# Altium integrated library Lattice ORCA Series 2.IntLib: 202 symbols (part 9 of 22)
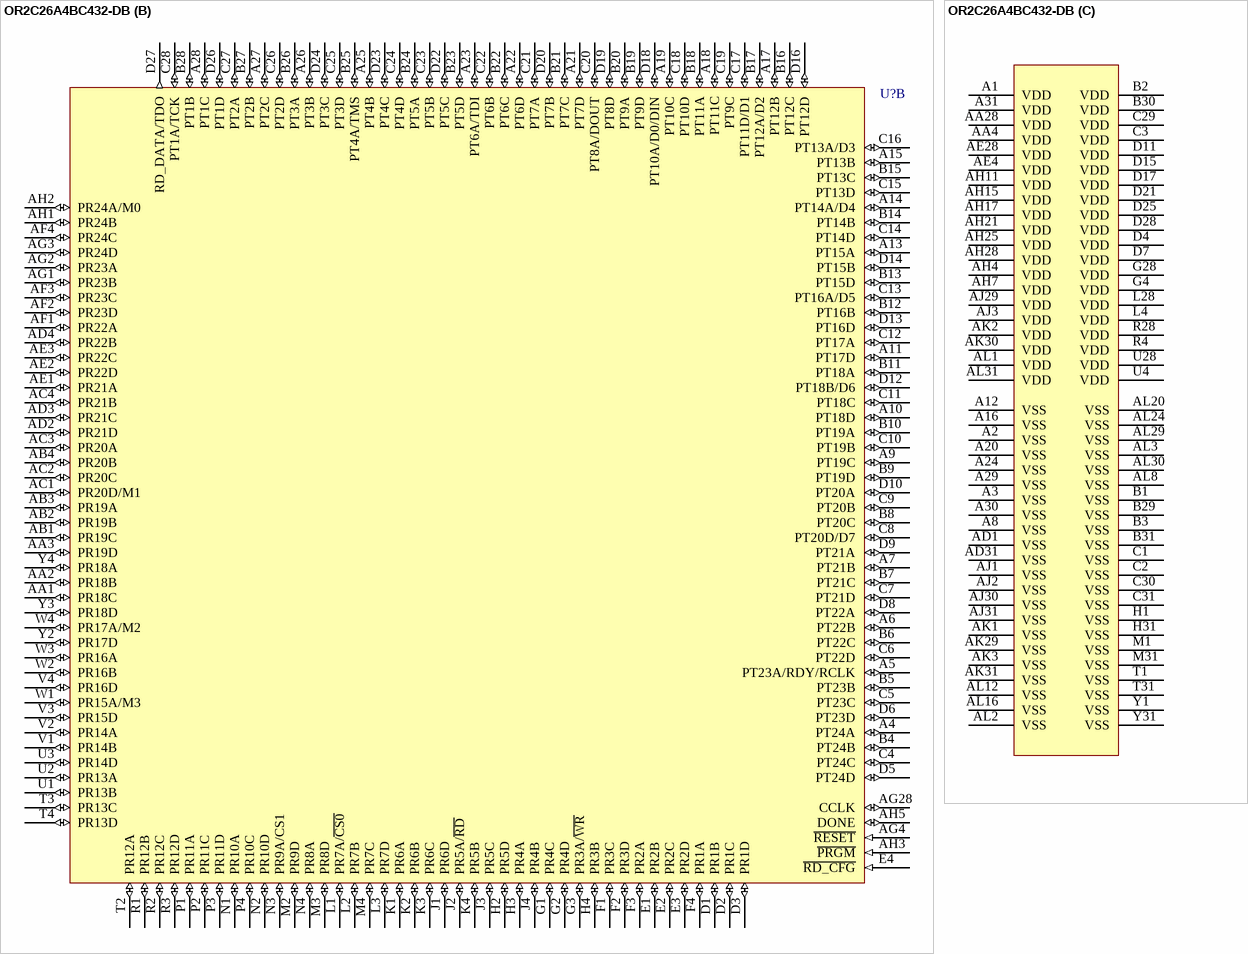
[diagram p200: symbol OR2C26A4BC432-DB]

## OR2C26A4BC432-DB
designator U?
ORCA Series 2C FPGA: 5.0 V, Commercial Grade, 384 User I/Os.; Published: 21-May-2003; LatestRevisionDate: 13-Apr-2006; LatestRevisionNote: IPC-7351 Footprint Added.; DatasheetVersion: Jan-2003; PackageVersion: pkg_32, Aug-2005; PackageReference: SBGA432; Publisher: Altium Limited; PackageDescription: 432-Ball Super Ball Grid Array (SBGA432); ComponentLink1Description: Manufacturer Link; ComponentLink1URL: http://www.latticesemi.com/products/fpga/orca/orca2/index.cfm; ComponentLink2Description: Datasheet; ComponentLink2URL: http://www.latticesemi.com/lit/docs/datasheets/fpga/ds99-094fpga.pdf; ComponentLink3Description: Lattice Login; ComponentLink3URL: http://www.latticesemi.com/account/login.cfm
footprint SBGA432 (BGA, 432-Leads, Body 40x40mm, Pitch 1.27mm)
3D model OR2C26A-SBGA432 (432-Ball Super Ball Grid Array (SBGA432))
part A pins: AA29 PL18A (io), AA30 PL18C (io), AA31 PL18D/A12 (io), AB28 PL20C (io), AB29 PL19B/A13 (io), AB30 PL19C (io), AB31 PL19D (io), AC28 PL21C (io), AC29 PL20B (io), AC30 PL20D (io), AC31 PL19A (io), AD28 PL22C (io), AD29 PL21D/A14 (io), AD30 PL20A (io), AE29 PL22D (io), AE30 PL21A (io), AE31 PL21B (io), AF28 PL24D (io), AF29 PL23D (io), AF30 PL22A (io), AF31 PL22B (io), AG29 PL23A (io), AG30 PL23B (io), AG31 PL23C (io), AH6 PB24A (io), AH8 PB22B (io), AH9 PB21B (io), AH10 PB20B (io), AH12 PB18C (io), AH13 PB17B (io), AH14 PB16A/HDC (io), AH16 PB13A (io), AH18 PB10A (io), AH19 PB8D (io), AH20 PB7C (io), AH22 PB5D (io), AH23 PB4D/A17 (io), AH24 PB3D (io), AH26 PB2A (io), AH27 PB1A/A16 (io), AH29 PL24A/A15 (io), AH30 PL24B (io), AH31 PL24C (io), AJ4 PB24D (io), AJ5 PB23D (io), AJ6 PB23A (io), AJ7 PB22A (io), AJ8 PB21A (io), AJ9 PB20C (io), AJ10 PB19C (io), AJ11 PB18D (io), AJ12 PB17D (io), AJ13 PB16D (io), AJ14 PB15B (io), AJ15 PB14A (io), AJ16 PB12D (io), AJ17 PB12A (io), AJ18 PB11A (io), AJ19 PB9B (io), AJ20 PB8B (io), AJ21 PB7B (io), AJ22 PB6C (io), AJ23 PB5C (io), AJ24 PB5A (io), AJ25 PB4A (io), AJ26 PB3A (io), AJ27 PB2B (io), AJ28 PB1B (io), AK4 PB24C (io), AK5 PB23C (io), AK6 PB22D (io), AK7 PB21D (io), AK8 PB20D (io), AK9 PB20A/~{INIT} (io), AK10 PB19B (io), AK11 PB18B (io), AK12 PB17A (io), AK13 PB16B (io), AK14 PB15A (io), AK15 PB13D (io), AK16 PB13B (io), AK17 PB12B (io), AK18 PB11B (io), AK19 PB9D (io), AK20 PB9A (io), AK21 PB7D (io), AK22 PB6D (io), AK23 PB6A (io), AK24 PB5B (io), AK25 PB4B (io), AK26 PB3B (io), AK27 PB2C (io), AK28 PB1C (io), AL4 PB24B (io), AL5 PB23B (io), AL6 PB22C (io), AL7 PB21C (io), AL9 PB19D (io), AL10 PB19A (io), AL11 PB18A/~{LDC} (io), AL13 PB15D (io), AL14 PB14D (io), AL15 PB13C (io), AL17 PB12C (io), AL18 PB11D (io), AL19 PB10D (io), AL21 PB8A (io), AL22 PB7A (io), AL23 PB6B (io), AL25 PB4C (io), AL26 PB3C (io), AL27 PB2D (io), AL28 PB1D (io), D29 PL1C (io), D30 PL1B (io), D31 PL1A (io), E28 PL1D (io), E29 PL2C (io), E30 PL2B (io), E31 PL2A (io), F28 PL2D/A0 (io), F29 PL3D (io), F30 PL3C (io), F31 PL3B (io), G29 PL4D (io), G30 PL4C (io), G31 PL4B (io), H28 PL3A (io), H29 PL5D (io), H30 PL5C (io), J28 PL4A (io), J29 PL5B (io), J30 PL6D (io), J31 PL6C (io), K28 PL5A/A1 (io), K29 PL6B (io), K30 PL6A/A2 (io), K31 PL7D (io), L29 PL7C (io), L30 PL7A/A3 (io), L31 PL8D (io), M28 PL7B (io), M29 PL8C (io), M30 PL9D (io), N28 PL8A (io), N29 PL9C (io), N30 PL9A/A4 (io), N31 PL10C (io), P28 PL10D/A5 (io), P29 PL10A (io), P30 PL11D (io), P31 PL11A/A6 (io), R29 PL12D (io), R30 PL12C (io), R31 PL12B (io), T28 PL13D (io), T29 PL12A/A7 (io), T30 PL13C (io), U29 PL14D/A9 (io), U30 PL13A/A8 (io), U31 PL13B (io), V28 PL15A/A10 (io), V29 PL15D (io), V30 PL14A (io), V31 PL14C (io), W28 PL17D (io), W29 PL16C (io), W30 PL16D (io), W31 PL15C (io), Y28 PL18B (io), Y29 PL17A/A11 (io), Y30 PL16A (io)
part B pins: A4 PT24A (io), A5 PT23A/RDY/RCLK (io), A6 PT22B (io), A7 PT21B (io), A9 PT19C (io), A10 PT18D (io), A11 PT17D (io), A13 PT15A (io), A14 PT14A/D4 (io), A15 PT13B (io), A17 PT12B (io), A18 PT11C (io), A19 PT10C (io), A21 PT7D (io), A22 PT6D (io), A23 PT6A/TDI (io), A25 PT4B (io), A26 PT3B (io), A27 PT2C (io), A28 PT1C (io), AA1 PR18C (io), AA2 PR18B (io), AA3 PR19D (io), AB1 PR19C (io), AB2 PR19B (io), AB3 PR19A (io), AB4 PR20B (io), AC1 PR20D/M1 (io), AC2 PR20C (io), AC3 PR20A (io), AC4 PR21B (io), AD2 PR21D (io), AD3 PR21C (io), AD4 PR22B (io), AE1 PR21A (io), AE2 PR22D (io), AE3 PR22C (io), AF1 PR22A (io), AF2 PR23D (io), AF3 PR23C (io), AF4 PR24C (io), AG1 PR23B (io), AG2 PR23A (io), AG3 PR24D (io), AG4 ~{RESET} (in), AG28 CCLK (io), AH1 PR24B (io), AH2 PR24A/M0 (io), AH3 ~{PRGM} (in), AH5 DONE (io), B4 PT24B (io), B5 PT23B (io), B6 PT22C (io), B7 PT21C (io), B8 PT20C (io), B9 PT19D (io), B10 PT19A (io), B11 PT18A (io), B12 PT16B (io), B13 PT15D (io), B14 PT14B (io), B15 PT13C (io), B16 PT12C (io), B17 PT12A/D2 (io), B18 PT11A (io), B19 PT9D (io), B20 PT9A (io), B21 PT7C (io), B22 PT6C (io), B23 PT5D (io), B24 PT5A (io), B25 PT4A/TMS (io), B26 PT3A (io), B27 PT2B (io), B28 PT1B (io), C4 PT24C (io), C5 PT23C (io), C6 PT22D (io), C7 PT21D (io), C8 PT20D/D7 (io), C9 PT20B (io), C10 PT19B (io), C11 PT18C (io), C12 PT17A (io), C13 PT16A/D5 (io), C14 PT14D (io), C15 PT13D (io), C16 PT13A/D3 (io), C17 PT11D/D1 (io), C18 PT10D (io), C19 PT9C (io), C20 PT8A/DOUT (io), C21 PT7A (io), C22 PT6B (io), C23 PT5B (io), C24 PT4D (io), C25 PT3D (io), C26 PT2D (io), C27 PT2A (io), C28 PT1A/TCK (io), D1 PR1B (io), D2 PR1C (io), D3 PR1D (io), D5 PT24D (io), D6 PT23D (io), D8 PT22A (io), D9 PT21A (io), D10 PT20A (io), D12 PT18B/D6 (io), D13 PT16D (io), D14 PT15B (io), D16 PT12D (io), D18 PT10A/D0/DIN (io), D19 PT8D (io), D20 PT7B (io), D22 PT5C (io), D23 PT4C (io), D24 PT3C (io), D26 PT1D (io), D27 RD_DATA/TDO (out), E1 PR2B (io), E2 PR2C (io), E3 PR2D (io), E4 ~{RD_CFG} (in), F1 PR3C (io), F2 PR3D (io), F3 PR2A (io), F4 PR1A (io), G1 PR4C (io), G2 PR4D (io), G3 PR3A/~{WR} (io), H2 PR5D (io), H3 PR4A (io), H4 PR3B (io), J1 PR6D (io), J2 PR5A/~{RD} (io), J3 PR5C (io), J4 PR4B (io), K1 PR6A (io), K2 PR6B (io), K3 PR6C (io), K4 PR5B (io), L1 PR7A/~{CS0} (io), L2 PR7B (io), L3 PR7D (io), M2 PR9D (io), M3 PR8D (io), M4 PR7C (io), N1 PR10A (io), N2 PR10D (io), N3 PR9A/CS1 (io), N4 PR8A (io), P1 PR11A (io), P2 PR11C (io), P3 PR11D (io), P4 PR10C (io), R1 PR12B (io), R2 PR12C (io), R3 PR12D (io), T2 PR12A (io), T3 PR13C (io), T4 PR13D (io), U1 PR13B (io), U2 PR13A (io), U3 PR14D (io), V1 PR14B (io), V2 PR14A (io), V3 PR15D (io), V4 PR16D (io), W1 PR15A/M3 (io), W2 PR16B (io), W3 PR16A (io), W4 PR17A/M2 (io), Y2 PR17D (io), Y3 PR18D (io), Y4 PR18A (io)
part C pins: A1 VDD (power), A2 VSS (power), A3 VSS (power), A8 VSS (power), A12 VSS (power), A16 VSS (power), A20 VSS (power), A24 VSS (power), A29 VSS (power), A30 VSS (power), A31 VDD (power), AA4 VDD (power), AA28 VDD (power), AD1 VSS (power), AD31 VSS (power), AE4 VDD (power), AE28 VDD (power), AH4 VDD (power), AH7 VDD (power), AH11 VDD (power), AH15 VDD (power), AH17 VDD (power), AH21 VDD (power), AH25 VDD (power), AH28 VDD (power), AJ1 VSS (power), AJ2 VSS (power), AJ3 VDD (power), AJ29 VDD (power), AJ30 VSS (power), AJ31 VSS (power), AK1 VSS (power), AK2 VDD (power), AK3 VSS (power), AK29 VSS (power), AK30 VDD (power), AK31 VSS (power), AL1 VDD (power), AL2 VSS (power), AL3 VSS (power), AL8 VSS (power), AL12 VSS (power), AL16 VSS (power), AL20 VSS (power), AL24 VSS (power), AL29 VSS (power), AL30 VSS (power), AL31 VDD (power), B1 VSS (power), B2 VDD (power), B3 VSS (power), B29 VSS (power), B30 VDD (power), B31 VSS (power), C1 VSS (power), C2 VSS (power), C3 VDD (power), C29 VDD (power), C30 VSS (power), C31 VSS (power), D4 VDD (power), D7 VDD (power), D11 VDD (power), D15 VDD (power), D17 VDD (power), D21 VDD (power), D25 VDD (power), D28 VDD (power), G4 VDD (power), G28 VDD (power), H1 VSS (power), H31 VSS (power), L4 VDD (power), L28 VDD (power), M1 VSS (power), M31 VSS (power), R4 VDD (power), R28 VDD (power), T1 VSS (power), T31 VSS (power), U4 VDD (power), U28 VDD (power), Y1 VSS (power), Y31 VSS (power)

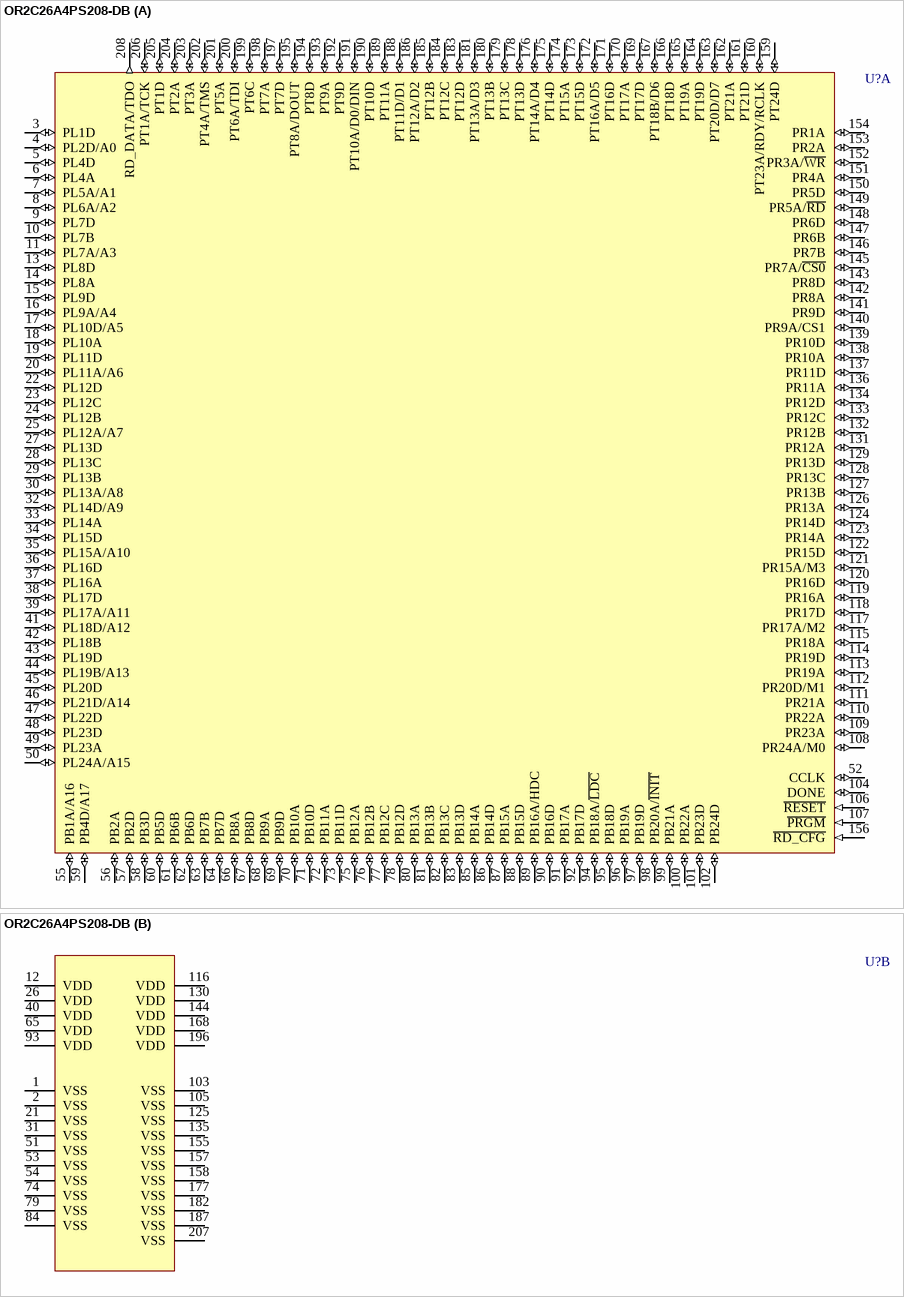
[diagram p65: symbol OR2C26A4PS208-DB]

## OR2C26A4PS208-DB
designator U?
ORCA Series 2C FPGA: 5.0 V, Commercial Grade, 384 User I/Os.; Published: 21-May-2003; LatestRevisionDate: 13-Apr-2006; LatestRevisionNote: IPC-7351 Footprint Added.; DatasheetVersion: Jan-2003; PackageVersion: pkg_32, Aug-2005; PackageReference: PQFP208; Publisher: Altium Limited; PackageDescription: 208-Pin Plastic Quad Flat Pack (PQFP208); Code_JEDEC: MO-143-FAI; ComponentLink1Description: Manufacturer Link; ComponentLink1URL: http://www.latticesemi.com/products/fpga/orca/orca2/index.cfm; ComponentLink2Description: Datasheet; ComponentLink2URL: http://www.latticesemi.com/lit/docs/datasheets/fpga/ds99-094fpga.pdf; ComponentLink3Description: Lattice Login; ComponentLink3URL: http://www.latticesemi.com/account/login.cfm
footprint PQFP208_N (Shrink QFP, 208-Leads, Body 28x28mm, Pitch 0.5mm, IPC Medium Density)
footprint PQFP208_L (Shrink QFP, 208-Leads, Body 28x28mm, Pitch 0.5mm, IPC High Density)
footprint PQFP208_M (Shrink QFP, 208-Leads, Body 28x28mm, Pitch 0.5mm, IPC Low Density)
3D model OR2C26A-PQFP208 (208-Pin Plastic Quad Flat Pack (PQFP208))
part A pins: 3 PL1D (io), 4 PL2D/A0 (io), 5 PL4D (io), 6 PL4A (io), 7 PL5A/A1 (io), 8 PL6A/A2 (io), 9 PL7D (io), 10 PL7B (io), 11 PL7A/A3 (io), 13 PL8D (io), 14 PL8A (io), 15 PL9D (io), 16 PL9A/A4 (io), 17 PL10D/A5 (io), 18 PL10A (io), 19 PL11D (io), 20 PL11A/A6 (io), 22 PL12D (io), 23 PL12C (io), 24 PL12B (io), 25 PL12A/A7 (io), 27 PL13D (io), 28 PL13C (io), 29 PL13B (io), 30 PL13A/A8 (io), 32 PL14D/A9 (io), 33 PL14A (io), 34 PL15D (io), 35 PL15A/A10 (io), 36 PL16D (io), 37 PL16A (io), 38 PL17D (io), 39 PL17A/A11 (io), 41 PL18D/A12 (io), 42 PL18B (io), 43 PL19D (io), 44 PL19B/A13 (io), 45 PL20D (io), 46 PL21D/A14 (io), 47 PL22D (io), 48 PL23D (io), 49 PL23A (io), 50 PL24A/A15 (io), 52 CCLK (io), 55 PB1A/A16 (io), 56 PB2A (io), 57 PB2D (io), 58 PB3D (io), 59 PB4D/A17 (io), 60 PB5D (io), 61 PB6B (io), 62 PB6D (io), 63 PB7B (io), 64 PB7D (io), 66 PB8A (io), 67 PB8D (io), 68 PB9A (io), 69 PB9D (io), 70 PB10A (io), 71 PB10D (io), 72 PB11A (io), 73 PB11D (io), 75 PB12A (io), 76 PB12B (io), 77 PB12C (io), 78 PB12D (io), 80 PB13A (io), 81 PB13B (io), 82 PB13C (io), 83 PB13D (io), 85 PB14A (io), 86 PB14D (io), 87 PB15A (io), 88 PB15D (io), 89 PB16A/HDC (io), 90 PB16D (io), 91 PB17A (io), 92 PB17D (io), 94 PB18A/~{LDC} (io), 95 PB18D (io), 96 PB19A (io), 97 PB19D (io), 98 PB20A/~{INIT} (io), 99 PB21A (io), 100 PB22A (io), 101 PB23D (io), 102 PB24D (io), 104 DONE (io), 106 ~{RESET} (in), 107 ~{PRGM} (in), 108 PR24A/M0 (io), 109 PR23A (io), 110 PR22A (io), 111 PR21A (io), 112 PR20D/M1 (io), 113 PR19A (io), 114 PR19D (io), 115 PR18A (io), 117 PR17A/M2 (io), 118 PR17D (io), 119 PR16A (io), 120 PR16D (io), 121 PR15A/M3 (io), 122 PR15D (io), 123 PR14A (io), 124 PR14D (io), 126 PR13A (io), 127 PR13B (io), 128 PR13C (io), 129 PR13D (io), 131 PR12A (io), 132 PR12B (io), 133 PR12C (io), 134 PR12D (io), 136 PR11A (io), 137 PR11D (io), 138 PR10A (io), 139 PR10D (io), 140 PR9A/CS1 (io), 141 PR9D (io), 142 PR8A (io), 143 PR8D (io), 145 PR7A/~{CS0} (io), 146 PR7B (io), 147 PR6B (io), 148 PR6D (io), 149 PR5A/~{RD} (io), 150 PR5D (io), 151 PR4A (io), 152 PR3A/~{WR} (io), 153 PR2A (io), 154 PR1A (io), 156 ~{RD_CFG} (in), 159 PT24D (io), 160 PT23A/RDY/RCLK (io), 161 PT21D (io), 162 PT21A (io), 163 PT20D/D7 (io), 164 PT19D (io), 165 PT19A (io), 166 PT18D (io), 167 PT18B/D6 (io), 169 PT17D (io), 170 PT17A (io), 171 PT16D (io), 172 PT16A/D5 (io), 173 PT15D (io), 174 PT15A (io), 175 PT14D (io), 176 PT14A/D4 (io), 178 PT13D (io), 179 PT13C (io), 180 PT13B (io), 181 PT13A/D3 (io), 183 PT12D (io), 184 PT12C (io), 185 PT12B (io), 186 PT12A/D2 (io), 188 PT11D/D1 (io), 189 PT11A (io), 190 PT10D (io), 191 PT10A/D0/DIN (io), 192 PT9D (io), 193 PT9A (io), 194 PT8D (io), 195 PT8A/DOUT (io), 197 PT7D (io), 198 PT7A (io), 199 PT6C (io), 200 PT6A/TDI (io), 201 PT5A (io), 202 PT4A/TMS (io), 203 PT3A (io), 204 PT2A (io), 205 PT1D (io), 206 PT1A/TCK (io), 208 RD_DATA/TDO (out)
part B pins: 1 VSS (power), 2 VSS (power), 12 VDD (power), 21 VSS (power), 26 VDD (power), 31 VSS (power), 40 VDD (power), 51 VSS (power), 53 VSS (power), 54 VSS (power), 65 VDD (power), 74 VSS (power), 79 VSS (power), 84 VSS (power), 93 VDD (power), 103 VSS (power), 105 VSS (power), 116 VDD (power), 125 VSS (power), 130 VDD (power), 135 VSS (power), 144 VDD (power), 155 VSS (power), 157 VSS (power), 158 VSS (power), 168 VDD (power), 177 VSS (power), 182 VSS (power), 187 VSS (power), 196 VDD (power), 207 VSS (power)

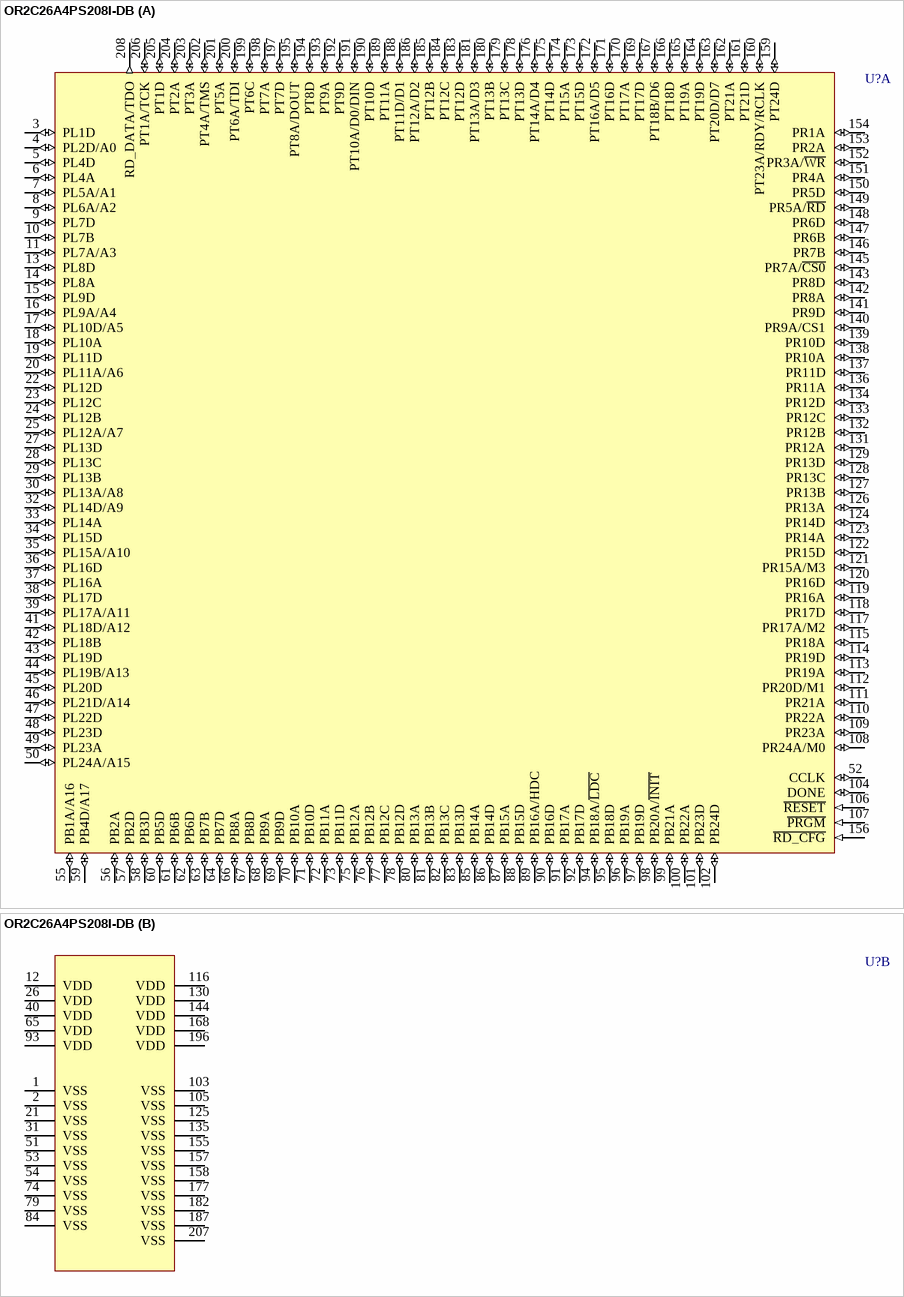
[diagram p66: symbol OR2C26A4PS208I-DB]

## OR2C26A4PS208I-DB
designator U?
ORCA Series 2C FPGA: 5.0 V, Industrial Grade, 384 User I/Os.; Published: 21-May-2003; LatestRevisionDate: 13-Apr-2006; LatestRevisionNote: IPC-7351 Footprint Added.; DatasheetVersion: Jan-2003; PackageVersion: pkg_32, Aug-2005; PackageReference: PQFP208; Publisher: Altium Limited; PackageDescription: 208-Pin Plastic Quad Flat Pack (PQFP208); Code_JEDEC: MO-143-FAI; ComponentLink1Description: Manufacturer Link; ComponentLink1URL: http://www.latticesemi.com/products/fpga/orca/orca2/index.cfm; ComponentLink2Description: Datasheet; ComponentLink2URL: http://www.latticesemi.com/lit/docs/datasheets/fpga/ds99-094fpga.pdf; ComponentLink3Description: Lattice Login; ComponentLink3URL: http://www.latticesemi.com/account/login.cfm
footprint PQFP208_N (Shrink QFP, 208-Leads, Body 28x28mm, Pitch 0.5mm, IPC Medium Density)
footprint PQFP208_L (Shrink QFP, 208-Leads, Body 28x28mm, Pitch 0.5mm, IPC High Density)
footprint PQFP208_M (Shrink QFP, 208-Leads, Body 28x28mm, Pitch 0.5mm, IPC Low Density)
3D model OR2C26A-PQFP208 (208-Pin Plastic Quad Flat Pack (PQFP208))
part A pins: 3 PL1D (io), 4 PL2D/A0 (io), 5 PL4D (io), 6 PL4A (io), 7 PL5A/A1 (io), 8 PL6A/A2 (io), 9 PL7D (io), 10 PL7B (io), 11 PL7A/A3 (io), 13 PL8D (io), 14 PL8A (io), 15 PL9D (io), 16 PL9A/A4 (io), 17 PL10D/A5 (io), 18 PL10A (io), 19 PL11D (io), 20 PL11A/A6 (io), 22 PL12D (io), 23 PL12C (io), 24 PL12B (io), 25 PL12A/A7 (io), 27 PL13D (io), 28 PL13C (io), 29 PL13B (io), 30 PL13A/A8 (io), 32 PL14D/A9 (io), 33 PL14A (io), 34 PL15D (io), 35 PL15A/A10 (io), 36 PL16D (io), 37 PL16A (io), 38 PL17D (io), 39 PL17A/A11 (io), 41 PL18D/A12 (io), 42 PL18B (io), 43 PL19D (io), 44 PL19B/A13 (io), 45 PL20D (io), 46 PL21D/A14 (io), 47 PL22D (io), 48 PL23D (io), 49 PL23A (io), 50 PL24A/A15 (io), 52 CCLK (io), 55 PB1A/A16 (io), 56 PB2A (io), 57 PB2D (io), 58 PB3D (io), 59 PB4D/A17 (io), 60 PB5D (io), 61 PB6B (io), 62 PB6D (io), 63 PB7B (io), 64 PB7D (io), 66 PB8A (io), 67 PB8D (io), 68 PB9A (io), 69 PB9D (io), 70 PB10A (io), 71 PB10D (io), 72 PB11A (io), 73 PB11D (io), 75 PB12A (io), 76 PB12B (io), 77 PB12C (io), 78 PB12D (io), 80 PB13A (io), 81 PB13B (io), 82 PB13C (io), 83 PB13D (io), 85 PB14A (io), 86 PB14D (io), 87 PB15A (io), 88 PB15D (io), 89 PB16A/HDC (io), 90 PB16D (io), 91 PB17A (io), 92 PB17D (io), 94 PB18A/~{LDC} (io), 95 PB18D (io), 96 PB19A (io), 97 PB19D (io), 98 PB20A/~{INIT} (io), 99 PB21A (io), 100 PB22A (io), 101 PB23D (io), 102 PB24D (io), 104 DONE (io), 106 ~{RESET} (in), 107 ~{PRGM} (in), 108 PR24A/M0 (io), 109 PR23A (io), 110 PR22A (io), 111 PR21A (io), 112 PR20D/M1 (io), 113 PR19A (io), 114 PR19D (io), 115 PR18A (io), 117 PR17A/M2 (io), 118 PR17D (io), 119 PR16A (io), 120 PR16D (io), 121 PR15A/M3 (io), 122 PR15D (io), 123 PR14A (io), 124 PR14D (io), 126 PR13A (io), 127 PR13B (io), 128 PR13C (io), 129 PR13D (io), 131 PR12A (io), 132 PR12B (io), 133 PR12C (io), 134 PR12D (io), 136 PR11A (io), 137 PR11D (io), 138 PR10A (io), 139 PR10D (io), 140 PR9A/CS1 (io), 141 PR9D (io), 142 PR8A (io), 143 PR8D (io), 145 PR7A/~{CS0} (io), 146 PR7B (io), 147 PR6B (io), 148 PR6D (io), 149 PR5A/~{RD} (io), 150 PR5D (io), 151 PR4A (io), 152 PR3A/~{WR} (io), 153 PR2A (io), 154 PR1A (io), 156 ~{RD_CFG} (in), 159 PT24D (io), 160 PT23A/RDY/RCLK (io), 161 PT21D (io), 162 PT21A (io), 163 PT20D/D7 (io), 164 PT19D (io), 165 PT19A (io), 166 PT18D (io), 167 PT18B/D6 (io), 169 PT17D (io), 170 PT17A (io), 171 PT16D (io), 172 PT16A/D5 (io), 173 PT15D (io), 174 PT15A (io), 175 PT14D (io), 176 PT14A/D4 (io), 178 PT13D (io), 179 PT13C (io), 180 PT13B (io), 181 PT13A/D3 (io), 183 PT12D (io), 184 PT12C (io), 185 PT12B (io), 186 PT12A/D2 (io), 188 PT11D/D1 (io), 189 PT11A (io), 190 PT10D (io), 191 PT10A/D0/DIN (io), 192 PT9D (io), 193 PT9A (io), 194 PT8D (io), 195 PT8A/DOUT (io), 197 PT7D (io), 198 PT7A (io), 199 PT6C (io), 200 PT6A/TDI (io), 201 PT5A (io), 202 PT4A/TMS (io), 203 PT3A (io), 204 PT2A (io), 205 PT1D (io), 206 PT1A/TCK (io), 208 RD_DATA/TDO (out)
part B pins: 1 VSS (power), 2 VSS (power), 12 VDD (power), 21 VSS (power), 26 VDD (power), 31 VSS (power), 40 VDD (power), 51 VSS (power), 53 VSS (power), 54 VSS (power), 65 VDD (power), 74 VSS (power), 79 VSS (power), 84 VSS (power), 93 VDD (power), 103 VSS (power), 105 VSS (power), 116 VDD (power), 125 VSS (power), 130 VDD (power), 135 VSS (power), 144 VDD (power), 155 VSS (power), 157 VSS (power), 158 VSS (power), 168 VDD (power), 177 VSS (power), 182 VSS (power), 187 VSS (power), 196 VDD (power), 207 VSS (power)

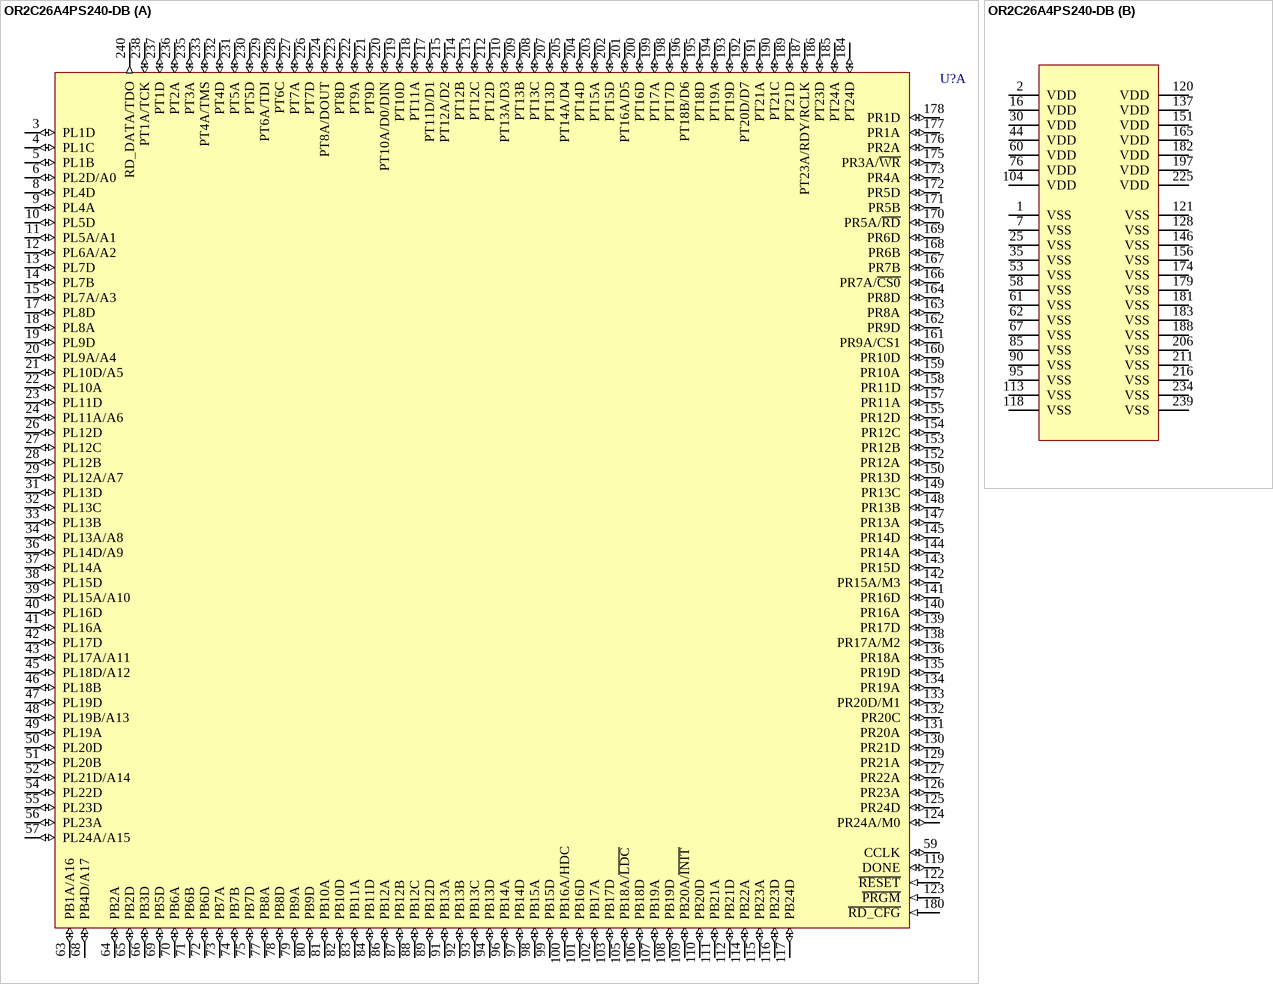
[diagram p67: symbol OR2C26A4PS240-DB]

## OR2C26A4PS240-DB
designator U?
ORCA Series 2C FPGA: 5.0 V, Commercial Grade, 384 User I/Os.; Published: 21-May-2003; LatestRevisionDate: 13-Apr-2006; LatestRevisionNote: IPC-7351 Footprint Added.; DatasheetVersion: Jan-2003; PackageVersion: pkg_32, Aug-2005; PackageReference: PQFP240; Publisher: Altium Limited; PackageDescription: 240-Pin Shrink Quad Flat Pack 0.5 mm Pitch; ComponentLink1Description: Manufacturer Link; ComponentLink1URL: http://www.latticesemi.com/products/fpga/orca/orca2/index.cfm; ComponentLink2Description: Datasheet; ComponentLink2URL: http://www.latticesemi.com/lit/docs/datasheets/fpga/ds99-094fpga.pdf; ComponentLink3Description: Lattice Login; ComponentLink3URL: http://www.latticesemi.com/account/login.cfm
footprint PQFP240_N (Shrink QFP, 240-Leads, Body 32x32mm, Pitch 0.5mm, IPC Medium Density)
footprint PQFP240_L (Shrink QFP, 240-Leads, Body 32x32mm, Pitch 0.5mm, IPC High Density)
footprint PQFP240_M (Shrink QFP, 240-Leads, Body 32x32mm, Pitch 0.5mm, IPC Low Density)
3D model OR2C26A-PQFP240 (240-Pin Shrink Quad Flat Pack 0.5 mm Pitch)
part A pins: 3 PL1D (io), 4 PL1C (io), 5 PL1B (io), 6 PL2D/A0 (io), 8 PL4D (io), 9 PL4A (io), 10 PL5D (io), 11 PL5A/A1 (io), 12 PL6A/A2 (io), 13 PL7D (io), 14 PL7B (io), 15 PL7A/A3 (io), 17 PL8D (io), 18 PL8A (io), 19 PL9D (io), 20 PL9A/A4 (io), 21 PL10D/A5 (io), 22 PL10A (io), 23 PL11D (io), 24 PL11A/A6 (io), 26 PL12D (io), 27 PL12C (io), 28 PL12B (io), 29 PL12A/A7 (io), 31 PL13D (io), 32 PL13C (io), 33 PL13B (io), 34 PL13A/A8 (io), 36 PL14D/A9 (io), 37 PL14A (io), 38 PL15D (io), 39 PL15A/A10 (io), 40 PL16D (io), 41 PL16A (io), 42 PL17D (io), 43 PL17A/A11 (io), 45 PL18D/A12 (io), 46 PL18B (io), 47 PL19D (io), 48 PL19B/A13 (io), 49 PL19A (io), 50 PL20D (io), 51 PL20B (io), 52 PL21D/A14 (io), 54 PL22D (io), 55 PL23D (io), 56 PL23A (io), 57 PL24A/A15 (io), 59 CCLK (io), 63 PB1A/A16 (io), 64 PB2A (io), 65 PB2D (io), 66 PB3D (io), 68 PB4D/A17 (io), 69 PB5D (io), 70 PB6A (io), 71 PB6B (io), 72 PB6D (io), 73 PB7A (io), 74 PB7B (io), 75 PB7D (io), 77 PB8A (io), 78 PB8D (io), 79 PB9A (io), 80 PB9D (io), 81 PB10A (io), 82 PB10D (io), 83 PB11A (io), 84 PB11D (io), 86 PB12A (io), 87 PB12B (io), 88 PB12C (io), 89 PB12D (io), 91 PB13A (io), 92 PB13B (io), 93 PB13C (io), 94 PB13D (io), 96 PB14A (io), 97 PB14D (io), 98 PB15A (io), 99 PB15D (io), 100 PB16A/HDC (io), 101 PB16D (io), 102 PB17A (io), 103 PB17D (io), 105 PB18A/~{LDC} (io), 106 PB18D (io), 107 PB19A (io), 108 PB19D (io), 109 PB20A/~{INIT} (io), 110 PB20D (io), 111 PB21A (io), 112 PB21D (io), 114 PB22A (io), 115 PB23A (io), 116 PB23D (io), 117 PB24D (io), 119 DONE (io), 122 ~{RESET} (in), 123 ~{PRGM} (in), 124 PR24A/M0 (io), 125 PR24D (io), 126 PR23A (io), 127 PR22A (io), 129 PR21A (io), 130 PR21D (io), 131 PR20A (io), 132 PR20C (io), 133 PR20D/M1 (io), 134 PR19A (io), 135 PR19D (io), 136 PR18A (io), 138 PR17A/M2 (io), 139 PR17D (io), 140 PR16A (io), 141 PR16D (io), 142 PR15A/M3 (io), 143 PR15D (io), 144 PR14A (io), 145 PR14D (io), 147 PR13A (io), 148 PR13B (io), 149 PR13C (io), 150 PR13D (io), 152 PR12A (io), 153 PR12B (io), 154 PR12C (io), 155 PR12D (io), 157 PR11A (io), 158 PR11D (io), 159 PR10A (io), 160 PR10D (io), 161 PR9A/CS1 (io), 162 PR9D (io), 163 PR8A (io), 164 PR8D (io), 166 PR7A/~{CS0} (io), 167 PR7B (io), 168 PR6B (io), 169 PR6D (io), 170 PR5A/~{RD} (io), 171 PR5B (io), 172 PR5D (io), 173 PR4A (io), 175 PR3A/~{WR} (io), 176 PR2A (io), 177 PR1A (io), 178 PR1D (io), 180 ~{RD_CFG} (in), 184 PT24D (io), 185 PT24A (io), 186 PT23D (io), 187 PT23A/RDY/RCLK (io), 189 PT21D (io), 190 PT21C (io), 191 PT21A (io), 192 PT20D/D7 (io), 193 PT19D (io), 194 PT19A (io), 195 PT18D (io), 196 PT18B/D6 (io), 198 PT17D (io), 199 PT17A (io), 200 PT16D (io), 201 PT16A/D5 (io), 202 PT15D (io), 203 PT15A (io), 204 PT14D (io), 205 PT14A/D4 (io), 207 PT13D (io), 208 PT13C (io), 209 PT13B (io), 210 PT13A/D3 (io), 212 PT12D (io), 213 PT12C (io), 214 PT12B (io), 215 PT12A/D2 (io), 217 PT11D/D1 (io), 218 PT11A (io), 219 PT10D (io), 220 PT10A/D0/DIN (io), 221 PT9D (io), 222 PT9A (io), 223 PT8D (io), 224 PT8A/DOUT (io), 226 PT7D (io), 227 PT7A (io), 228 PT6C (io), 229 PT6A/TDI (io), 230 PT5D (io), 231 PT5A (io), 232 PT4D (io), 233 PT4A/TMS (io), 235 PT3A (io), 236 PT2A (io), 237 PT1D (io), 238 PT1A/TCK (io), 240 RD_DATA/TDO (out)
part B pins: 1 VSS (power), 2 VDD (power), 7 VSS (power), 16 VDD (power), 25 VSS (power), 30 VDD (power), 35 VSS (power), 44 VDD (power), 53 VSS (power), 58 VSS (power), 60 VDD (power), 61 VSS (power), 62 VSS (power), 67 VSS (power), 76 VDD (power), 85 VSS (power), 90 VSS (power), 95 VSS (power), 104 VDD (power), 113 VSS (power), 118 VSS (power), 120 VDD (power), 121 VSS (power), 128 VSS (power), 137 VDD (power), 146 VSS (power), 151 VDD (power), 156 VSS (power), 165 VDD (power), 174 VSS (power), 179 VSS (power), 181 VSS (power), 182 VDD (power), 183 VSS (power), 188 VSS (power), 197 VDD (power), 206 VSS (power), 211 VSS (power), 216 VSS (power), 225 VDD (power), 234 VSS (power), 239 VSS (power)

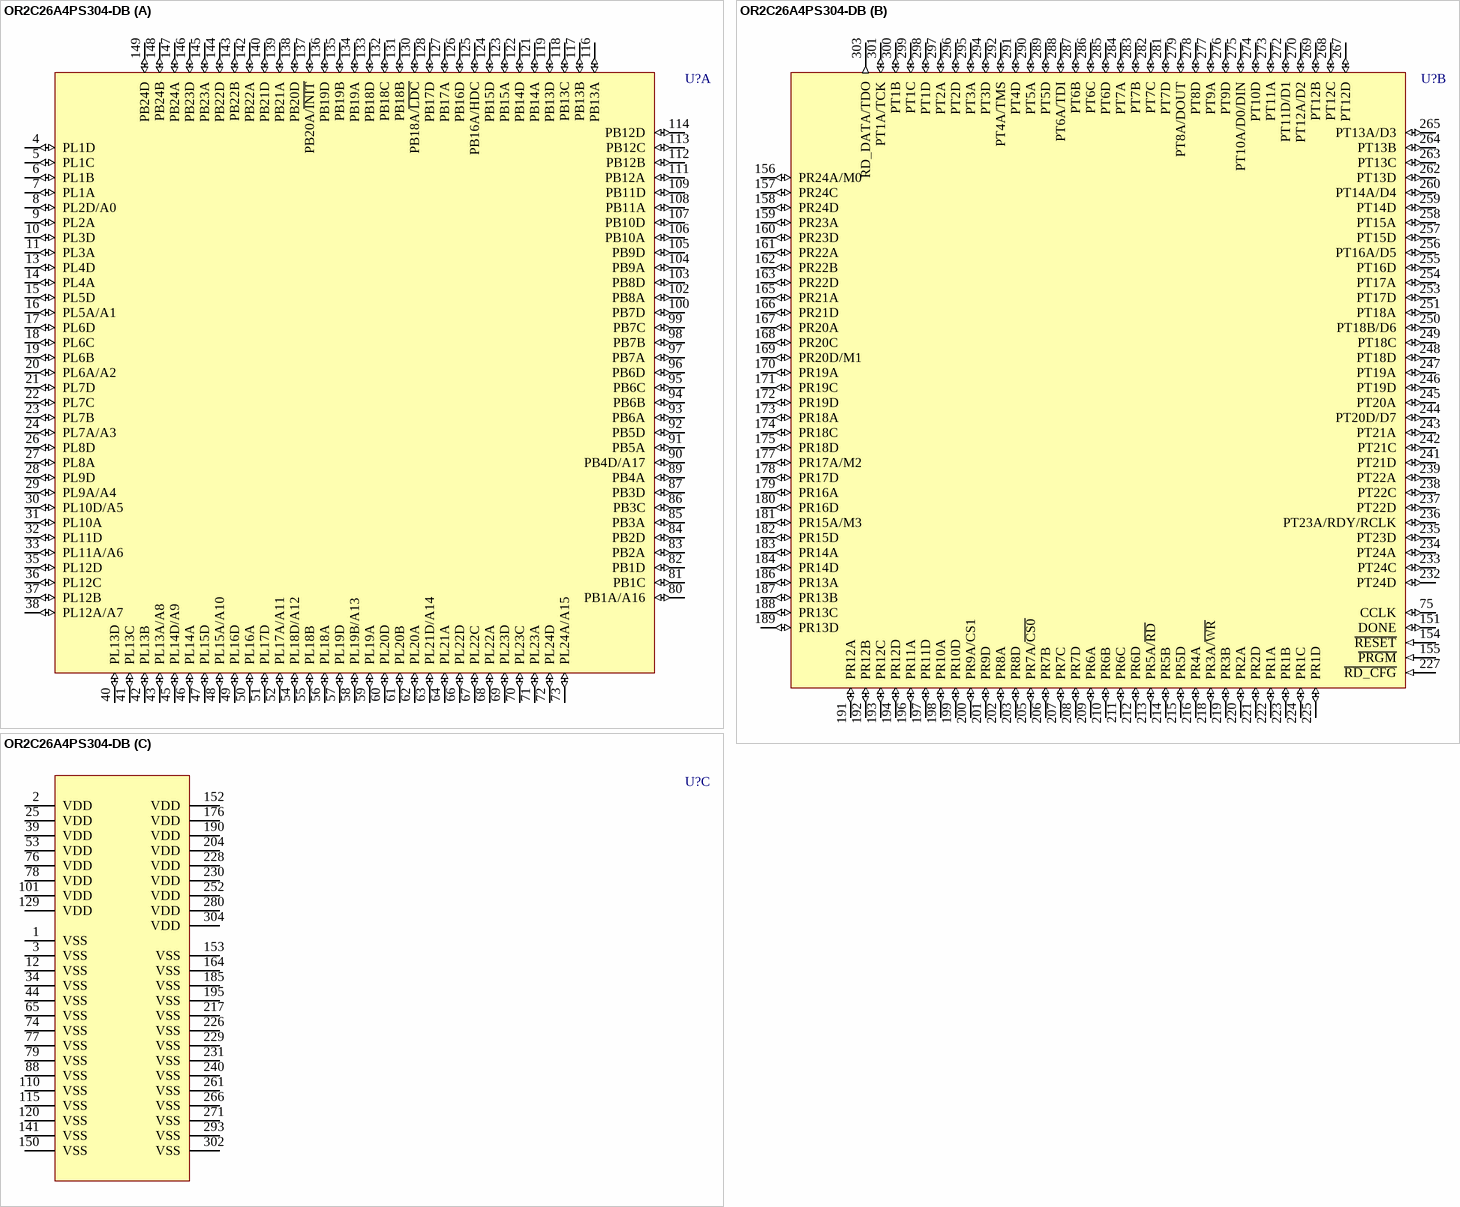
[diagram p68: symbol OR2C26A4PS304-DB]

## OR2C26A4PS304-DB
designator U?
ORCA Series 2C FPGA: 5.0 V, Commercial Grade, 384 User I/Os.; Published: 21-May-2003; LatestRevisionDate: 13-Apr-2006; LatestRevisionNote: IPC-7351 Footprint Added.; DatasheetVersion: Jan-2003; PackageVersion: pkg_32, Aug-2005; PackageReference: PQFP304; Publisher: Altium Limited; PackageDescription: 304-Pin Shrink Quad Flat Pack 0.5 mm Pitch; ComponentLink1Description: Manufacturer Link; ComponentLink1URL: http://www.latticesemi.com/products/fpga/orca/orca2/index.cfm; ComponentLink2Description: Datasheet; ComponentLink2URL: http://www.latticesemi.com/lit/docs/datasheets/fpga/ds99-094fpga.pdf; ComponentLink3Description: Lattice Login; ComponentLink3URL: http://www.latticesemi.com/account/login.cfm
footprint PQFP304_N (Shrink QFP, 304-Leads, Body 40x40mm, Pitch 0.5mm, IPC Medium Density)
footprint PQFP304_L (Shrink QFP, 304-Leads, Body 40x40mm, Pitch 0.5mm, IPC High Density)
footprint PQFP304_M (Shrink QFP, 304-Leads, Body 40x40mm, Pitch 0.5mm, IPC Low Density)
3D model OR2C26A-PQFP304 (304-Pin Shrink Quad Flat Pack 0.5 mm Pitch)
part A pins: 4 PL1D (io), 5 PL1C (io), 6 PL1B (io), 7 PL1A (io), 8 PL2D/A0 (io), 9 PL2A (io), 10 PL3D (io), 11 PL3A (io), 13 PL4D (io), 14 PL4A (io), 15 PL5D (io), 16 PL5A/A1 (io), 17 PL6D (io), 18 PL6C (io), 19 PL6B (io), 20 PL6A/A2 (io), 21 PL7D (io), 22 PL7C (io), 23 PL7B (io), 24 PL7A/A3 (io), 26 PL8D (io), 27 PL8A (io), 28 PL9D (io), 29 PL9A/A4 (io), 30 PL10D/A5 (io), 31 PL10A (io), 32 PL11D (io), 33 PL11A/A6 (io), 35 PL12D (io), 36 PL12C (io), 37 PL12B (io), 38 PL12A/A7 (io), 40 PL13D (io), 41 PL13C (io), 42 PL13B (io), 43 PL13A/A8 (io), 45 PL14D/A9 (io), 46 PL14A (io), 47 PL15D (io), 48 PL15A/A10 (io), 49 PL16D (io), 50 PL16A (io), 51 PL17D (io), 52 PL17A/A11 (io), 54 PL18D/A12 (io), 55 PL18B (io), 56 PL18A (io), 57 PL19D (io), 58 PL19B/A13 (io), 59 PL19A (io), 60 PL20D (io), 61 PL20B (io), 62 PL20A (io), 63 PL21D/A14 (io), 64 PL21A (io), 66 PL22D (io), 67 PL22C (io), 68 PL22A (io), 69 PL23D (io), 70 PL23C (io), 71 PL23A (io), 72 PL24D (io), 73 PL24A/A15 (io), 80 PB1A/A16 (io), 81 PB1C (io), 82 PB1D (io), 83 PB2A (io), 84 PB2D (io), 85 PB3A (io), 86 PB3C (io), 87 PB3D (io), 89 PB4A (io), 90 PB4D/A17 (io), 91 PB5A (io), 92 PB5D (io), 93 PB6A (io), 94 PB6B (io), 95 PB6C (io), 96 PB6D (io), 97 PB7A (io), 98 PB7B (io), 99 PB7C (io), 100 PB7D (io), 102 PB8A (io), 103 PB8D (io), 104 PB9A (io), 105 PB9D (io), 106 PB10A (io), 107 PB10D (io), 108 PB11A (io), 109 PB11D (io), 111 PB12A (io), 112 PB12B (io), 113 PB12C (io), 114 PB12D (io), 116 PB13A (io), 117 PB13B (io), 118 PB13C (io), 119 PB13D (io), 121 PB14A (io), 122 PB14D (io), 123 PB15A (io), 124 PB15D (io), 125 PB16A/HDC (io), 126 PB16D (io), 127 PB17A (io), 128 PB17D (io), 130 PB18A/~{LDC} (io), 131 PB18B (io), 132 PB18C (io), 133 PB18D (io), 134 PB19A (io), 135 PB19B (io), 136 PB19D (io), 137 PB20A/~{INIT} (io), 138 PB20D (io), 139 PB21A (io), 140 PB21D (io), 142 PB22A (io), 143 PB22B (io), 144 PB22D (io), 145 PB23A (io), 146 PB23D (io), 147 PB24A (io), 148 PB24B (io), 149 PB24D (io)
part B pins: 75 CCLK (io), 151 DONE (io), 154 ~{RESET} (in), 155 ~{PRGM} (in), 156 PR24A/M0 (io), 157 PR24C (io), 158 PR24D (io), 159 PR23A (io), 160 PR23D (io), 161 PR22A (io), 162 PR22B (io), 163 PR22D (io), 165 PR21A (io), 166 PR21D (io), 167 PR20A (io), 168 PR20C (io), 169 PR20D/M1 (io), 170 PR19A (io), 171 PR19C (io), 172 PR19D (io), 173 PR18A (io), 174 PR18C (io), 175 PR18D (io), 177 PR17A/M2 (io), 178 PR17D (io), 179 PR16A (io), 180 PR16D (io), 181 PR15A/M3 (io), 182 PR15D (io), 183 PR14A (io), 184 PR14D (io), 186 PR13A (io), 187 PR13B (io), 188 PR13C (io), 189 PR13D (io), 191 PR12A (io), 192 PR12B (io), 193 PR12C (io), 194 PR12D (io), 196 PR11A (io), 197 PR11D (io), 198 PR10A (io), 199 PR10D (io), 200 PR9A/CS1 (io), 201 PR9D (io), 202 PR8A (io), 203 PR8D (io), 205 PR7A/~{CS0} (io), 206 PR7B (io), 207 PR7C (io), 208 PR7D (io), 209 PR6A (io), 210 PR6B (io), 211 PR6C (io), 212 PR6D (io), 213 PR5A/~{RD} (io), 214 PR5B (io), 215 PR5D (io), 216 PR4A (io), 218 PR3A/~{WR} (io), 219 PR3B (io), 220 PR2A (io), 221 PR2D (io), 222 PR1A (io), 223 PR1B (io), 224 PR1C (io), 225 PR1D (io), 227 ~{RD_CFG} (in), 232 PT24D (io), 233 PT24C (io), 234 PT24A (io), 235 PT23D (io), 236 PT23A/RDY/RCLK (io), 237 PT22D (io), 238 PT22C (io), 239 PT22A (io), 241 PT21D (io), 242 PT21C (io), 243 PT21A (io), 244 PT20D/D7 (io), 245 PT20A (io), 246 PT19D (io), 247 PT19A (io), 248 PT18D (io), 249 PT18C (io), 250 PT18B/D6 (io), 251 PT18A (io), 253 PT17D (io), 254 PT17A (io), 255 PT16D (io), 256 PT16A/D5 (io), 257 PT15D (io), 258 PT15A (io), 259 PT14D (io), 260 PT14A/D4 (io), 262 PT13D (io), 263 PT13C (io), 264 PT13B (io), 265 PT13A/D3 (io), 267 PT12D (io), 268 PT12C (io), 269 PT12B (io), 270 PT12A/D2 (io), 272 PT11D/D1 (io), 273 PT11A (io), 274 PT10D (io), 275 PT10A/D0/DIN (io), 276 PT9D (io), 277 PT9A (io), 278 PT8D (io), 279 PT8A/DOUT (io), 281 PT7D (io), 282 PT7C (io), 283 PT7B (io), 284 PT7A (io), 285 PT6D (io), 286 PT6C (io), 287 PT6B (io), 288 PT6A/TDI (io), 289 PT5D (io), 290 PT5A (io), 291 PT4D (io), 292 PT4A/TMS (io), 294 PT3D (io), 295 PT3A (io), 296 PT2D (io), 297 PT2A (io), 298 PT1D (io), 299 PT1C (io), 300 PT1B (io), 301 PT1A/TCK (io), 303 RD_DATA/TDO (out)
part C pins: 1 VSS (power), 2 VDD (power), 3 VSS (power), 12 VSS (power), 25 VDD (power), 34 VSS (power), 39 VDD (power), 44 VSS (power), 53 VDD (power), 65 VSS (power), 74 VSS (power), 76 VDD (power), 77 VSS (power), 78 VDD (power), 79 VSS (power), 88 VSS (power), 101 VDD (power), 110 VSS (power), 115 VSS (power), 120 VSS (power), 129 VDD (power), 141 VSS (power), 150 VSS (power), 152 VDD (power), 153 VSS (power), 164 VSS (power), 176 VDD (power), 185 VSS (power), 190 VDD (power), 195 VSS (power), 204 VDD (power), 217 VSS (power), 226 VSS (power), 228 VDD (power), 229 VSS (power), 230 VDD (power), 231 VSS (power), 240 VSS (power), 252 VDD (power), 261 VSS (power), 266 VSS (power), 271 VSS (power), 280 VDD (power), 293 VSS (power), 302 VSS (power), 304 VDD (power)

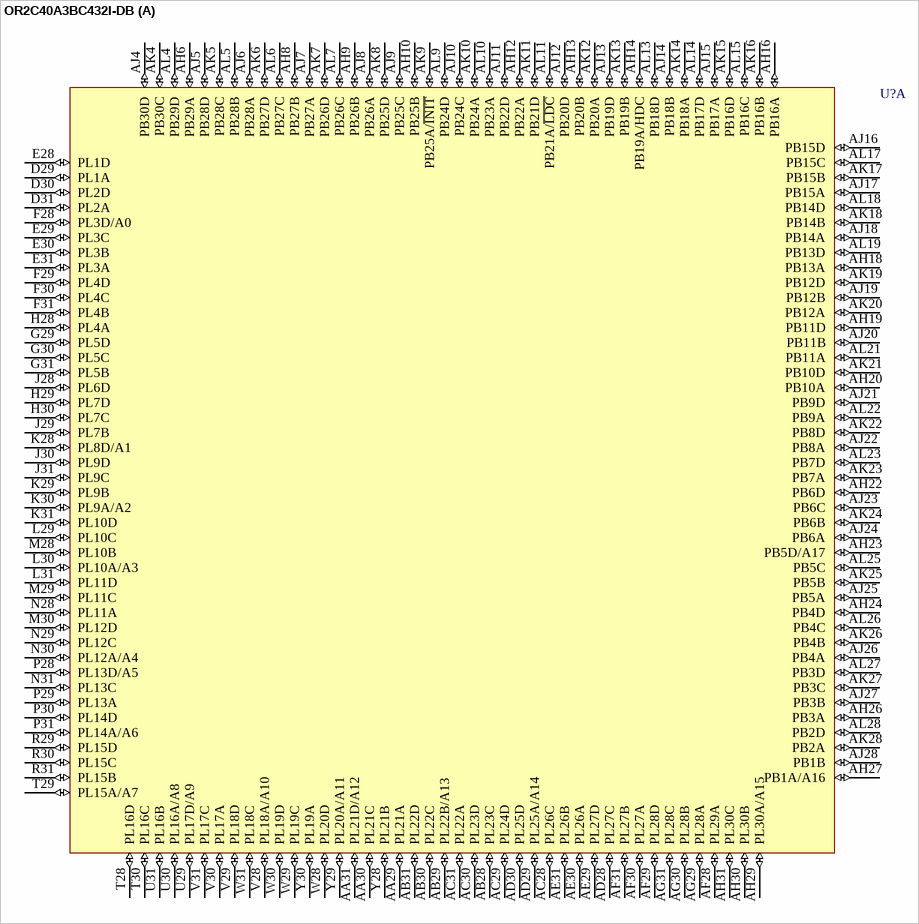
[diagram p69: symbol OR2C40A3BC432I-DB]

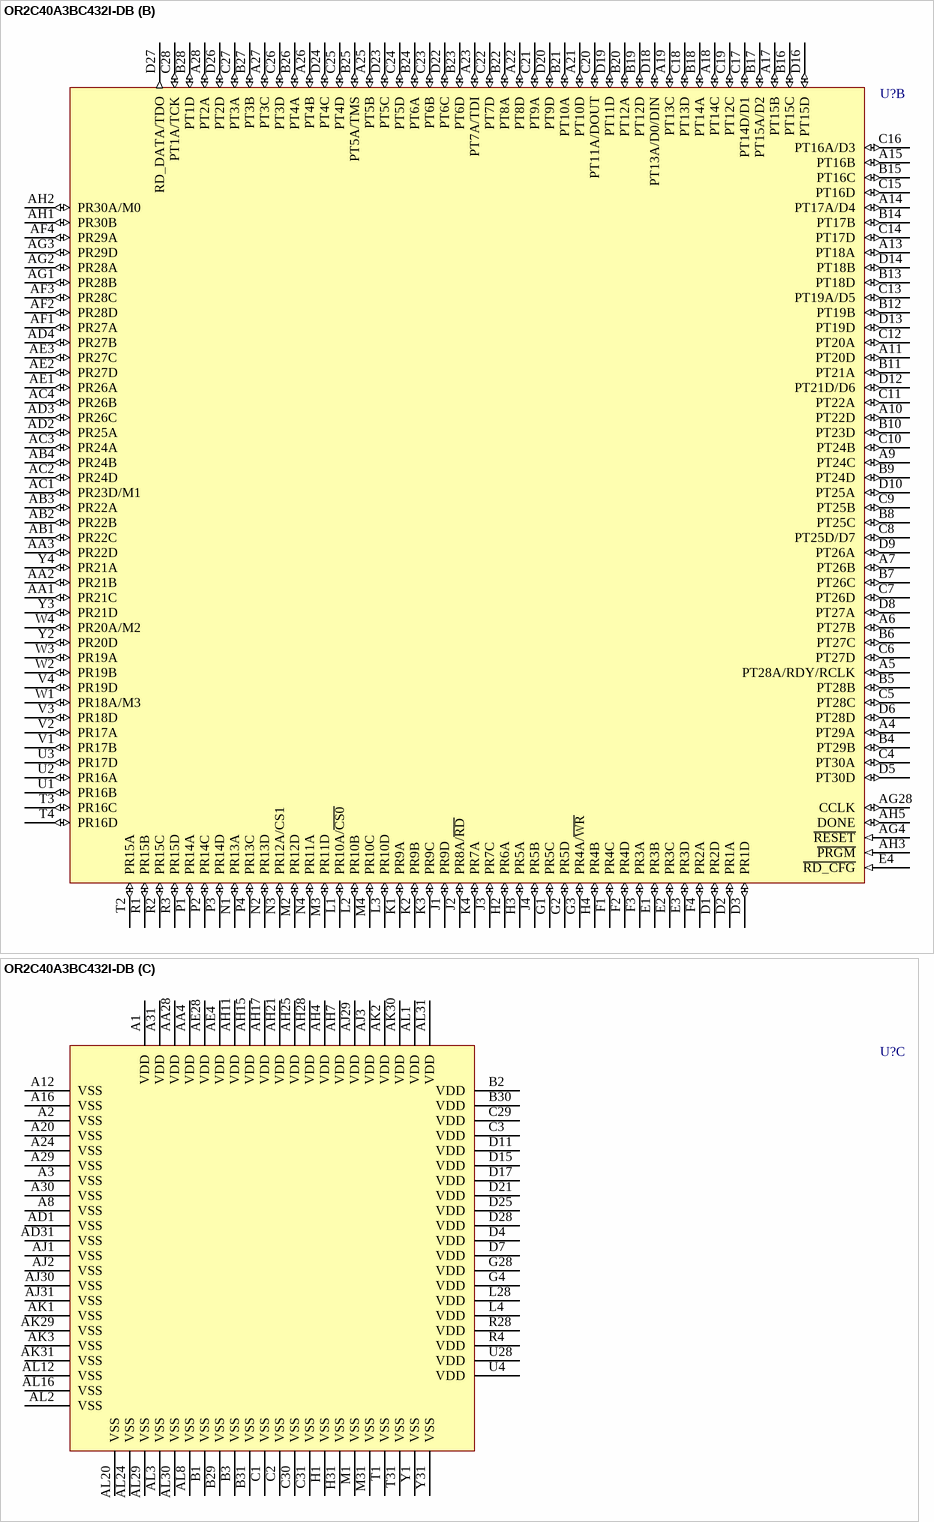
[diagram p70: symbol OR2C40A3BC432I-DB]

## OR2C40A3BC432I-DB
designator U?
ORCA Series 2C FPGA: 5.0 V, Industrial Grade, 480 User I/Os.; Published: 21-May-2003; LatestRevisionDate: 13-Apr-2006; LatestRevisionNote: IPC-7351 Footprint Added.; DatasheetVersion: Jan-2003; PackageVersion: pkg_32, Aug-2005; PackageReference: SBGA432; Publisher: Altium Limited; PackageDescription: 432-Ball Super Ball Grid Array (SBGA432); ComponentLink1Description: Manufacturer Link; ComponentLink1URL: http://www.latticesemi.com/products/fpga/orca/orca2/index.cfm; ComponentLink2Description: Datasheet; ComponentLink2URL: http://www.latticesemi.com/lit/docs/datasheets/fpga/ds99-094fpga.pdf; ComponentLink3Description: Lattice Login; ComponentLink3URL: http://www.latticesemi.com/account/login.cfm
footprint SBGA432 (BGA, 432-Leads, Body 40x40mm, Pitch 1.27mm)
3D model OR2C40A-SBGA432 (432-Ball Super Ball Grid Array (SBGA432))
part A pins: AA29 PL21A (io), AA30 PL21C (io), AA31 PL21D/A12 (io), AB28 PL23C (io), AB29 PL22B/A13 (io), AB30 PL22C (io), AB31 PL22D (io), AC28 PL26C (io), AC29 PL24D (io), AC30 PL23D (io), AC31 PL22A (io), AD28 PL27C (io), AD29 PL25A/A14 (io), AD30 PL25D (io), AE29 PL27D (io), AE30 PL26A (io), AE31 PL26B (io), AF28 PL29A (io), AF29 PL28D (io), AF30 PL27A (io), AF31 PL27B (io), AG29 PL28A (io), AG30 PL28B (io), AG31 PL28C (io), AH6 PB29A (io), AH8 PB27B (io), AH9 PB26B (io), AH10 PB25B (io), AH12 PB22A (io), AH13 PB20B (io), AH14 PB19A/HDC (io), AH16 PB16A (io), AH18 PB13A (io), AH19 PB11D (io), AH20 PB10A (io), AH22 PB6D (io), AH23 PB5D/A17 (io), AH24 PB4D (io), AH26 PB3A (io), AH27 PB1A/A16 (io), AH29 PL30A/A15 (io), AH30 PL30B (io), AH31 PL30C (io), AJ4 PB30D (io), AJ5 PB28D (io), AJ6 PB28A (io), AJ7 PB27A (io), AJ8 PB26A (io), AJ9 PB25C (io), AJ10 PB24C (io), AJ11 PB22D (io), AJ12 PB20D (io), AJ13 PB19D (io), AJ14 PB18B (io), AJ15 PB17A (io), AJ16 PB15D (io), AJ17 PB15A (io), AJ18 PB14A (io), AJ19 PB12B (io), AJ20 PB11B (io), AJ21 PB9D (io), AJ22 PB8A (io), AJ23 PB6C (io), AJ24 PB6A (io), AJ25 PB5A (io), AJ26 PB4A (io), AJ27 PB3B (io), AJ28 PB1B (io), AK4 PB30C (io), AK5 PB28C (io), AK6 PB27D (io), AK7 PB26D (io), AK8 PB25D (io), AK9 PB25A/~{INIT} (io), AK10 PB24A (io), AK11 PB21D (io), AK12 PB20A (io), AK13 PB19B (io), AK14 PB18A (io), AK15 PB16D (io), AK16 PB16B (io), AK17 PB15B (io), AK18 PB14B (io), AK19 PB12D (io), AK20 PB12A (io), AK21 PB10D (io), AK22 PB8D (io), AK23 PB7A (io), AK24 PB6B (io), AK25 PB5B (io), AK26 PB4B (io), AK27 PB3C (io), AK28 PB2A (io), AL4 PB29D (io), AL5 PB28B (io), AL6 PB27C (io), AL7 PB26C (io), AL9 PB24D (io), AL10 PB23A (io), AL11 PB21A/~{LDC} (io), AL13 PB18D (io), AL14 PB17D (io), AL15 PB16C (io), AL17 PB15C (io), AL18 PB14D (io), AL19 PB13D (io), AL21 PB11A (io), AL22 PB9A (io), AL23 PB7D (io), AL25 PB5C (io), AL26 PB4C (io), AL27 PB3D (io), AL28 PB2D (io), D29 PL1A (io), D30 PL2D (io), D31 PL2A (io), E28 PL1D (io), E29 PL3C (io), E30 PL3B (io), E31 PL3A (io), F28 PL3D/A0 (io), F29 PL4D (io), F30 PL4C (io), F31 PL4B (io), G29 PL5D (io), G30 PL5C (io), G31 PL5B (io), H28 PL4A (io), H29 PL7D (io), H30 PL7C (io), J28 PL6D (io), J29 PL7B (io), J30 PL9D (io), J31 PL9C (io), K28 PL8D/A1 (io), K29 PL9B (io), K30 PL9A/A2 (io), K31 PL10D (io), L29 PL10C (io), L30 PL10A/A3 (io), L31 PL11D (io), M28 PL10B (io), M29 PL11C (io), M30 PL12D (io), N28 PL11A (io), N29 PL12C (io), N30 PL12A/A4 (io), N31 PL13C (io), P28 PL13D/A5 (io), P29 PL13A (io), P30 PL14D (io), P31 PL14A/A6 (io), R29 PL15D (io), R30 PL15C (io), R31 PL15B (io), T28 PL16D (io), T29 PL15A/A7 (io), T30 PL16C (io), U29 PL17D/A9 (io), U30 PL16A/A8 (io), U31 PL16B (io), V28 PL18A/A10 (io), V29 PL18D (io), V30 PL17A (io), V31 PL17C (io), W28 PL20D (io), W29 PL19C (io), W30 PL19D (io), W31 PL18C (io), Y28 PL21B (io), Y29 PL20A/A11 (io), Y30 PL19A (io)
part B pins: A4 PT29A (io), A5 PT28A/RDY/RCLK (io), A6 PT27B (io), A7 PT26B (io), A9 PT24C (io), A10 PT22D (io), A11 PT20D (io), A13 PT18A (io), A14 PT17A/D4 (io), A15 PT16B (io), A17 PT15B (io), A18 PT14C (io), A19 PT13C (io), A21 PT10D (io), A22 PT8D (io), A23 PT7A/TDI (io), A25 PT5B (io), A26 PT4B (io), A27 PT3C (io), A28 PT2A (io), AA1 PR21C (io), AA2 PR21B (io), AA3 PR22D (io), AB1 PR22C (io), AB2 PR22B (io), AB3 PR22A (io), AB4 PR24B (io), AC1 PR23D/M1 (io), AC2 PR24D (io), AC3 PR24A (io), AC4 PR26B (io), AD2 PR25A (io), AD3 PR26C (io), AD4 PR27B (io), AE1 PR26A (io), AE2 PR27D (io), AE3 PR27C (io), AF1 PR27A (io), AF2 PR28D (io), AF3 PR28C (io), AF4 PR29A (io), AG1 PR28B (io), AG2 PR28A (io), AG3 PR29D (io), AG4 ~{RESET} (in), AG28 CCLK (io), AH1 PR30B (io), AH2 PR30A/M0 (io), AH3 ~{PRGM} (in), AH5 DONE (io), B4 PT29B (io), B5 PT28B (io), B6 PT27C (io), B7 PT26C (io), B8 PT25C (io), B9 PT24D (io), B10 PT23D (io), B11 PT21A (io), B12 PT19B (io), B13 PT18D (io), B14 PT17B (io), B15 PT16C (io), B16 PT15C (io), B17 PT15A/D2 (io), B18 PT14A (io), B19 PT12D (io), B20 PT12A (io), B21 PT10A (io), B22 PT8A (io), B23 PT6D (io), B24 PT6A (io), B25 PT5A/TMS (io), B26 PT4A (io), B27 PT3B (io), B28 PT1D (io), C4 PT30A (io), C5 PT28C (io), C6 PT27D (io), C7 PT26D (io), C8 PT25D/D7 (io), C9 PT25B (io), C10 PT24B (io), C11 PT22A (io), C12 PT20A (io), C13 PT19A/D5 (io), C14 PT17D (io), C15 PT16D (io), C16 PT16A/D3 (io), C17 PT14D/D1 (io), C18 PT13D (io), C19 PT12C (io), C20 PT11A/DOUT (io), C21 PT9A (io), C22 PT7D (io), C23 PT6B (io), C24 PT5D (io), C25 PT4D (io), C26 PT3D (io), C27 PT3A (io), C28 PT1A/TCK (io), D1 PR2D (io), D2 PR1A (io), D3 PR1D (io), D5 PT30D (io), D6 PT28D (io), D8 PT27A (io), D9 PT26A (io), D10 PT25A (io), D12 PT21D/D6 (io), D13 PT19D (io), D14 PT18B (io), D16 PT15D (io), D18 PT13A/D0/DIN (io), D19 PT11D (io), D20 PT9D (io), D22 PT6C (io), D23 PT5C (io), D24 PT4C (io), D26 PT2D (io), D27 RD_DATA/TDO (out), E1 PR3B (io), E2 PR3C (io), E3 PR3D (io), E4 ~{RD_CFG} (in), F1 PR4C (io), F2 PR4D (io), F3 PR3A (io), F4 PR2A (io), G1 PR5C (io), G2 PR5D (io), G3 PR4A/~{WR} (io), H2 PR6A (io), H3 PR5A (io), H4 PR4B (io), J1 PR9D (io), J2 PR8A/~{RD} (io), J3 PR7C (io), J4 PR5B (io), K1 PR9A (io), K2 PR9B (io), K3 PR9C (io), K4 PR7A (io), L1 PR10A/~{CS0} (io), L2 PR10B (io), L3 PR10D (io), M2 PR12D (io), M3 PR11D (io), M4 PR10C (io), N1 PR13A (io), N2 PR13D (io), N3 PR12A/CS1 (io), N4 PR11A (io), P1 PR14A (io), P2 PR14C (io), P3 PR14D (io), P4 PR13C (io), R1 PR15B (io), R2 PR15C (io), R3 PR15D (io), T2 PR15A (io), T3 PR16C (io), T4 PR16D (io), U1 PR16B (io), U2 PR16A (io), U3 PR17D (io), V1 PR17B (io), V2 PR17A (io), V3 PR18D (io), V4 PR19D (io), W1 PR18A/M3 (io), W2 PR19B (io), W3 PR19A (io), W4 PR20A/M2 (io), Y2 PR20D (io), Y3 PR21D (io), Y4 PR21A (io)
part C pins: A1 VDD (power), A2 VSS (power), A3 VSS (power), A8 VSS (power), A12 VSS (power), A16 VSS (power), A20 VSS (power), A24 VSS (power), A29 VSS (power), A30 VSS (power), A31 VDD (power), AA4 VDD (power), AA28 VDD (power), AD1 VSS (power), AD31 VSS (power), AE4 VDD (power), AE28 VDD (power), AH4 VDD (power), AH7 VDD (power), AH11 VDD (power), AH15 VDD (power), AH17 VDD (power), AH21 VDD (power), AH25 VDD (power), AH28 VDD (power), AJ1 VSS (power), AJ2 VSS (power), AJ3 VDD (power), AJ29 VDD (power), AJ30 VSS (power), AJ31 VSS (power), AK1 VSS (power), AK2 VDD (power), AK3 VSS (power), AK29 VSS (power), AK30 VDD (power), AK31 VSS (power), AL1 VDD (power), AL2 VSS (power), AL3 VSS (power), AL8 VSS (power), AL12 VSS (power), AL16 VSS (power), AL20 VSS (power), AL24 VSS (power), AL29 VSS (power), AL30 VSS (power), AL31 VDD (power), B1 VSS (power), B2 VDD (power), B3 VSS (power), B29 VSS (power), B30 VDD (power), B31 VSS (power), C1 VSS (power), C2 VSS (power), C3 VDD (power), C29 VDD (power), C30 VSS (power), C31 VSS (power), D4 VDD (power), D7 VDD (power), D11 VDD (power), D15 VDD (power), D17 VDD (power), D21 VDD (power), D25 VDD (power), D28 VDD (power), G4 VDD (power), G28 VDD (power), H1 VSS (power), H31 VSS (power), L4 VDD (power), L28 VDD (power), M1 VSS (power), M31 VSS (power), R4 VDD (power), R28 VDD (power), T1 VSS (power), T31 VSS (power), U4 VDD (power), U28 VDD (power), Y1 VSS (power), Y31 VSS (power)

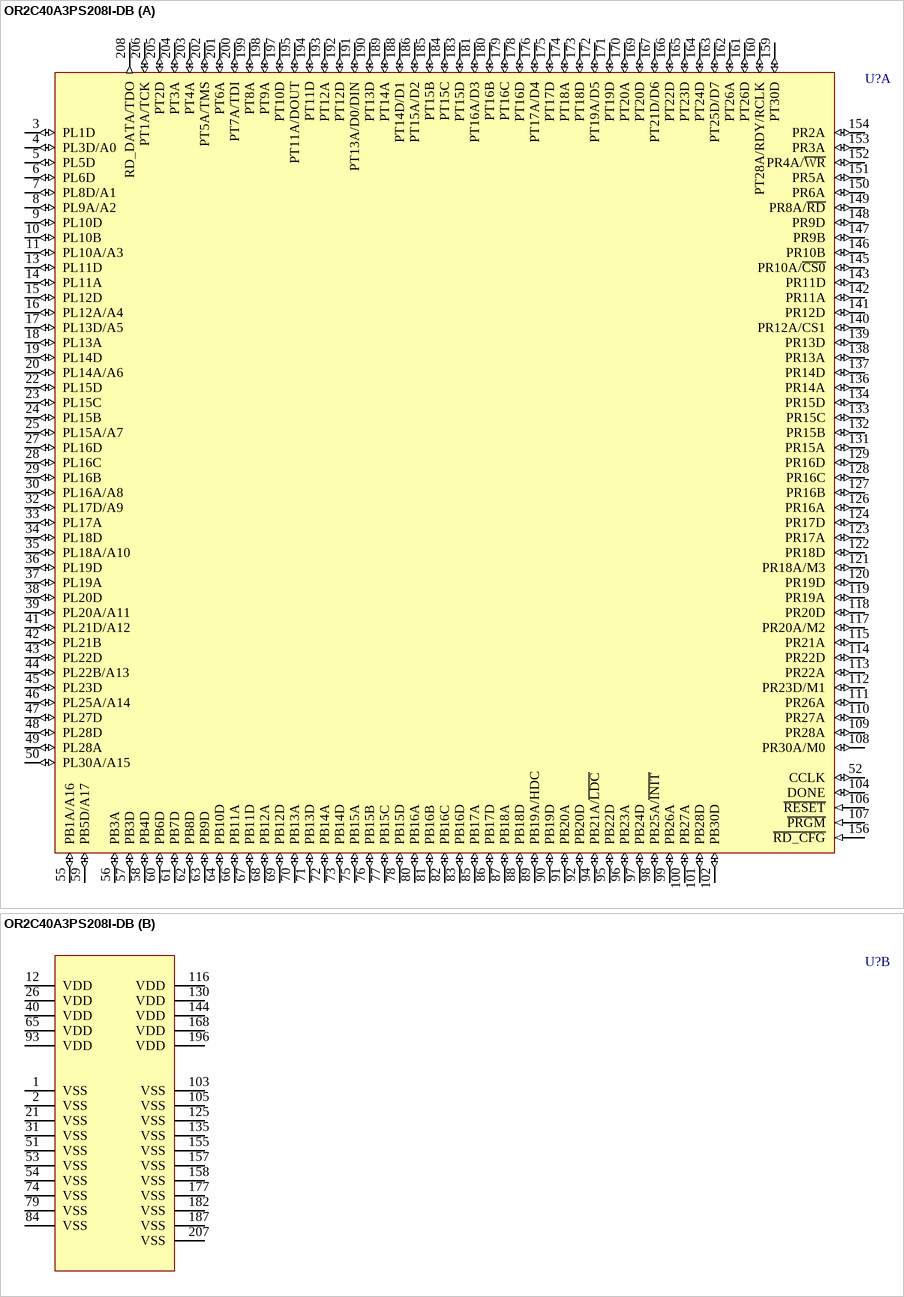
[diagram p71: symbol OR2C40A3PS208I-DB]

## OR2C40A3PS208I-DB
designator U?
ORCA Series 2C FPGA: 5.0 V, Industrial Grade, 480 User I/Os.; Published: 21-May-2003; LatestRevisionDate: 13-Apr-2006; LatestRevisionNote: IPC-7351 Footprint Added.; DatasheetVersion: Jan-2003; PackageVersion: pkg_32, Aug-2005; PackageReference: PQFP208; Publisher: Altium Limited; PackageDescription: 208-Pin Plastic Quad Flat Pack (PQFP208); Code_JEDEC: MO-143-FAI; ComponentLink1Description: Manufacturer Link; ComponentLink1URL: http://www.latticesemi.com/products/fpga/orca/orca2/index.cfm; ComponentLink2Description: Datasheet; ComponentLink2URL: http://www.latticesemi.com/lit/docs/datasheets/fpga/ds99-094fpga.pdf; ComponentLink3Description: Lattice Login; ComponentLink3URL: http://www.latticesemi.com/account/login.cfm
footprint PQFP208_N (Shrink QFP, 208-Leads, Body 28x28mm, Pitch 0.5mm, IPC Medium Density)
footprint PQFP208_L (Shrink QFP, 208-Leads, Body 28x28mm, Pitch 0.5mm, IPC High Density)
footprint PQFP208_M (Shrink QFP, 208-Leads, Body 28x28mm, Pitch 0.5mm, IPC Low Density)
3D model OR2C40A-PQFP208 (208-Pin Plastic Quad Flat Pack (PQFP208))
part A pins: 3 PL1D (io), 4 PL3D/A0 (io), 5 PL5D (io), 6 PL6D (io), 7 PL8D/A1 (io), 8 PL9A/A2 (io), 9 PL10D (io), 10 PL10B (io), 11 PL10A/A3 (io), 13 PL11D (io), 14 PL11A (io), 15 PL12D (io), 16 PL12A/A4 (io), 17 PL13D/A5 (io), 18 PL13A (io), 19 PL14D (io), 20 PL14A/A6 (io), 22 PL15D (io), 23 PL15C (io), 24 PL15B (io), 25 PL15A/A7 (io), 27 PL16D (io), 28 PL16C (io), 29 PL16B (io), 30 PL16A/A8 (io), 32 PL17D/A9 (io), 33 PL17A (io), 34 PL18D (io), 35 PL18A/A10 (io), 36 PL19D (io), 37 PL19A (io), 38 PL20D (io), 39 PL20A/A11 (io), 41 PL21D/A12 (io), 42 PL21B (io), 43 PL22D (io), 44 PL22B/A13 (io), 45 PL23D (io), 46 PL25A/A14 (io), 47 PL27D (io), 48 PL28D (io), 49 PL28A (io), 50 PL30A/A15 (io), 52 CCLK (io), 55 PB1A/A16 (io), 56 PB3A (io), 57 PB3D (io), 58 PB4D (io), 59 PB5D/A17 (io), 60 PB6D (io), 61 PB7D (io), 62 PB8D (io), 63 PB9D (io), 64 PB10D (io), 66 PB11A (io), 67 PB11D (io), 68 PB12A (io), 69 PB12D (io), 70 PB13A (io), 71 PB13D (io), 72 PB14A (io), 73 PB14D (io), 75 PB15A (io), 76 PB15B (io), 77 PB15C (io), 78 PB15D (io), 80 PB16A (io), 81 PB16B (io), 82 PB16C (io), 83 PB16D (io), 85 PB17A (io), 86 PB17D (io), 87 PB18A (io), 88 PB18D (io), 89 PB19A/HDC (io), 90 PB19D (io), 91 PB20A (io), 92 PB20D (io), 94 PB21A/~{LDC} (io), 95 PB22D (io), 96 PB23A (io), 97 PB24D (io), 98 PB25A/~{INIT} (io), 99 PB26A (io), 100 PB27A (io), 101 PB28D (io), 102 PB30D (io), 104 DONE (io), 106 ~{RESET} (in), 107 ~{PRGM} (in), 108 PR30A/M0 (io), 109 PR28A (io), 110 PR27A (io), 111 PR26A (io), 112 PR23D/M1 (io), 113 PR22A (io), 114 PR22D (io), 115 PR21A (io), 117 PR20A/M2 (io), 118 PR20D (io), 119 PR19A (io), 120 PR19D (io), 121 PR18A/M3 (io), 122 PR18D (io), 123 PR17A (io), 124 PR17D (io), 126 PR16A (io), 127 PR16B (io), 128 PR16C (io), 129 PR16D (io), 131 PR15A (io), 132 PR15B (io), 133 PR15C (io), 134 PR15D (io), 136 PR14A (io), 137 PR14D (io), 138 PR13A (io), 139 PR13D (io), 140 PR12A/CS1 (io), 141 PR12D (io), 142 PR11A (io), 143 PR11D (io), 145 PR10A/~{CS0} (io), 146 PR10B (io), 147 PR9B (io), 148 PR9D (io), 149 PR8A/~{RD} (io), 150 PR6A (io), 151 PR5A (io), 152 PR4A/~{WR} (io), 153 PR3A (io), 154 PR2A (io), 156 ~{RD_CFG} (in), 159 PT30D (io), 160 PT28A/RDY/RCLK (io), 161 PT26D (io), 162 PT26A (io), 163 PT25D/D7 (io), 164 PT24D (io), 165 PT23D (io), 166 PT22D (io), 167 PT21D/D6 (io), 169 PT20D (io), 170 PT20A (io), 171 PT19D (io), 172 PT19A/D5 (io), 173 PT18D (io), 174 PT18A (io), 175 PT17D (io), 176 PT17A/D4 (io), 178 PT16D (io), 179 PT16C (io), 180 PT16B (io), 181 PT16A/D3 (io), 183 PT15D (io), 184 PT15C (io), 185 PT15B (io), 186 PT15A/D2 (io), 188 PT14D/D1 (io), 189 PT14A (io), 190 PT13D (io), 191 PT13A/D0/DIN (io), 192 PT12D (io), 193 PT12A (io), 194 PT11D (io), 195 PT11A/DOUT (io), 197 PT10D (io), 198 PT9A (io), 199 PT8A (io), 200 PT7A/TDI (io), 201 PT6A (io), 202 PT5A/TMS (io), 203 PT4A (io), 204 PT3A (io), 205 PT2D (io), 206 PT1A/TCK (io), 208 RD_DATA/TDO (out)
part B pins: 1 VSS (power), 2 VSS (power), 12 VDD (power), 21 VSS (power), 26 VDD (power), 31 VSS (power), 40 VDD (power), 51 VSS (power), 53 VSS (power), 54 VSS (power), 65 VDD (power), 74 VSS (power), 79 VSS (power), 84 VSS (power), 93 VDD (power), 103 VSS (power), 105 VSS (power), 116 VDD (power), 125 VSS (power), 130 VDD (power), 135 VSS (power), 144 VDD (power), 155 VSS (power), 157 VSS (power), 158 VSS (power), 168 VDD (power), 177 VSS (power), 182 VSS (power), 187 VSS (power), 196 VDD (power), 207 VSS (power)

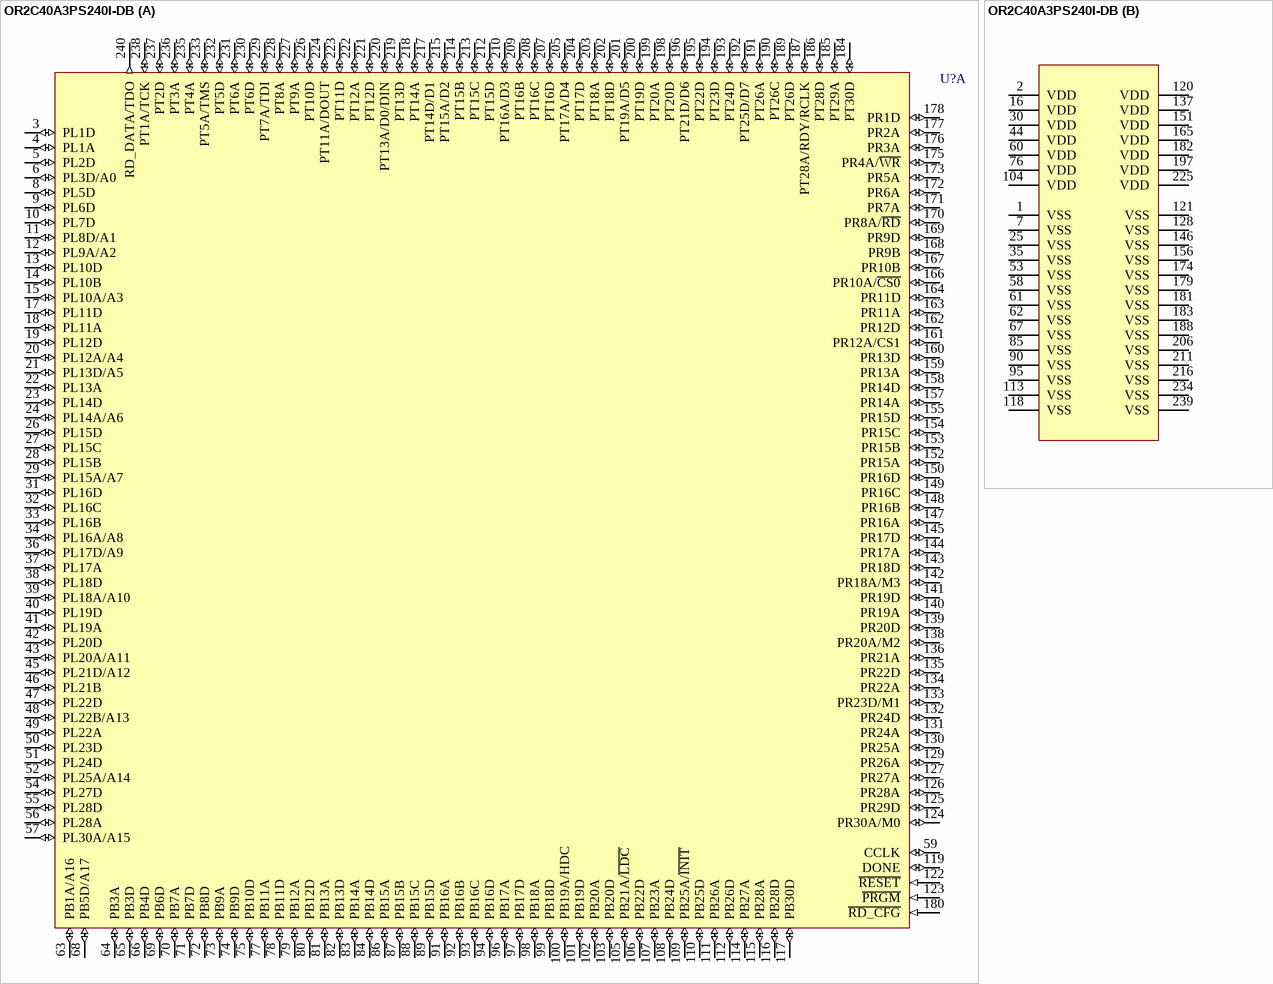
[diagram p72: symbol OR2C40A3PS240I-DB]

## OR2C40A3PS240I-DB
designator U?
ORCA Series 2C FPGA: 5.0 V, Industrial Grade, 480 User I/Os.; Published: 21-May-2003; LatestRevisionDate: 13-Apr-2006; LatestRevisionNote: IPC-7351 Footprint Added.; DatasheetVersion: Jan-2003; PackageVersion: pkg_32, Aug-2005; PackageReference: PQFP240; Publisher: Altium Limited; PackageDescription: 240-Pin Shrink Quad Flat Pack 0.5 mm Pitch; ComponentLink1Description: Manufacturer Link; ComponentLink1URL: http://www.latticesemi.com/products/fpga/orca/orca2/index.cfm; ComponentLink2Description: Datasheet; ComponentLink2URL: http://www.latticesemi.com/lit/docs/datasheets/fpga/ds99-094fpga.pdf; ComponentLink3Description: Lattice Login; ComponentLink3URL: http://www.latticesemi.com/account/login.cfm
footprint PQFP240_N (Shrink QFP, 240-Leads, Body 32x32mm, Pitch 0.5mm, IPC Medium Density)
footprint PQFP240_L (Shrink QFP, 240-Leads, Body 32x32mm, Pitch 0.5mm, IPC High Density)
footprint PQFP240_M (Shrink QFP, 240-Leads, Body 32x32mm, Pitch 0.5mm, IPC Low Density)
3D model OR2C40A-PQFP240 (240-Pin Shrink Quad Flat Pack 0.5 mm Pitch)
part A pins: 3 PL1D (io), 4 PL1A (io), 5 PL2D (io), 6 PL3D/A0 (io), 8 PL5D (io), 9 PL6D (io), 10 PL7D (io), 11 PL8D/A1 (io), 12 PL9A/A2 (io), 13 PL10D (io), 14 PL10B (io), 15 PL10A/A3 (io), 17 PL11D (io), 18 PL11A (io), 19 PL12D (io), 20 PL12A/A4 (io), 21 PL13D/A5 (io), 22 PL13A (io), 23 PL14D (io), 24 PL14A/A6 (io), 26 PL15D (io), 27 PL15C (io), 28 PL15B (io), 29 PL15A/A7 (io), 31 PL16D (io), 32 PL16C (io), 33 PL16B (io), 34 PL16A/A8 (io), 36 PL17D/A9 (io), 37 PL17A (io), 38 PL18D (io), 39 PL18A/A10 (io), 40 PL19D (io), 41 PL19A (io), 42 PL20D (io), 43 PL20A/A11 (io), 45 PL21D/A12 (io), 46 PL21B (io), 47 PL22D (io), 48 PL22B/A13 (io), 49 PL22A (io), 50 PL23D (io), 51 PL24D (io), 52 PL25A/A14 (io), 54 PL27D (io), 55 PL28D (io), 56 PL28A (io), 57 PL30A/A15 (io), 59 CCLK (io), 63 PB1A/A16 (io), 64 PB3A (io), 65 PB3D (io), 66 PB4D (io), 68 PB5D/A17 (io), 69 PB6D (io), 70 PB7A (io), 71 PB7D (io), 72 PB8D (io), 73 PB9A (io), 74 PB9D (io), 75 PB10D (io), 77 PB11A (io), 78 PB11D (io), 79 PB12A (io), 80 PB12D (io), 81 PB13A (io), 82 PB13D (io), 83 PB14A (io), 84 PB14D (io), 86 PB15A (io), 87 PB15B (io), 88 PB15C (io), 89 PB15D (io), 91 PB16A (io), 92 PB16B (io), 93 PB16C (io), 94 PB16D (io), 96 PB17A (io), 97 PB17D (io), 98 PB18A (io), 99 PB18D (io), 100 PB19A/HDC (io), 101 PB19D (io), 102 PB20A (io), 103 PB20D (io), 105 PB21A/~{LDC} (io), 106 PB22D (io), 107 PB23A (io), 108 PB24D (io), 109 PB25A/~{INIT} (io), 110 PB25D (io), 111 PB26A (io), 112 PB26D (io), 114 PB27A (io), 115 PB28A (io), 116 PB28D (io), 117 PB30D (io), 119 DONE (io), 122 ~{RESET} (in), 123 ~{PRGM} (in), 124 PR30A/M0 (io), 125 PR29D (io), 126 PR28A (io), 127 PR27A (io), 129 PR26A (io), 130 PR25A (io), 131 PR24A (io), 132 PR24D (io), 133 PR23D/M1 (io), 134 PR22A (io), 135 PR22D (io), 136 PR21A (io), 138 PR20A/M2 (io), 139 PR20D (io), 140 PR19A (io), 141 PR19D (io), 142 PR18A/M3 (io), 143 PR18D (io), 144 PR17A (io), 145 PR17D (io), 147 PR16A (io), 148 PR16B (io), 149 PR16C (io), 150 PR16D (io), 152 PR15A (io), 153 PR15B (io), 154 PR15C (io), 155 PR15D (io), 157 PR14A (io), 158 PR14D (io), 159 PR13A (io), 160 PR13D (io), 161 PR12A/CS1 (io), 162 PR12D (io), 163 PR11A (io), 164 PR11D (io), 166 PR10A/~{CS0} (io), 167 PR10B (io), 168 PR9B (io), 169 PR9D (io), 170 PR8A/~{RD} (io), 171 PR7A (io), 172 PR6A (io), 173 PR5A (io), 175 PR4A/~{WR} (io), 176 PR3A (io), 177 PR2A (io), 178 PR1D (io), 180 ~{RD_CFG} (in), 184 PT30D (io), 185 PT29A (io), 186 PT28D (io), 187 PT28A/RDY/RCLK (io), 189 PT26D (io), 190 PT26C (io), 191 PT26A (io), 192 PT25D/D7 (io), 193 PT24D (io), 194 PT23D (io), 195 PT22D (io), 196 PT21D/D6 (io), 198 PT20D (io), 199 PT20A (io), 200 PT19D (io), 201 PT19A/D5 (io), 202 PT18D (io), 203 PT18A (io), 204 PT17D (io), 205 PT17A/D4 (io), 207 PT16D (io), 208 PT16C (io), 209 PT16B (io), 210 PT16A/D3 (io), 212 PT15D (io), 213 PT15C (io), 214 PT15B (io), 215 PT15A/D2 (io), 217 PT14D/D1 (io), 218 PT14A (io), 219 PT13D (io), 220 PT13A/D0/DIN (io), 221 PT12D (io), 222 PT12A (io), 223 PT11D (io), 224 PT11A/DOUT (io), 226 PT10D (io), 227 PT9A (io), 228 PT8A (io), 229 PT7A/TDI (io), 230 PT6D (io), 231 PT6A (io), 232 PT5D (io), 233 PT5A/TMS (io), 235 PT4A (io), 236 PT3A (io), 237 PT2D (io), 238 PT1A/TCK (io), 240 RD_DATA/TDO (out)
part B pins: 1 VSS (power), 2 VDD (power), 7 VSS (power), 16 VDD (power), 25 VSS (power), 30 VDD (power), 35 VSS (power), 44 VDD (power), 53 VSS (power), 58 VSS (power), 60 VDD (power), 61 VSS (power), 62 VSS (power), 67 VSS (power), 76 VDD (power), 85 VSS (power), 90 VSS (power), 95 VSS (power), 104 VDD (power), 113 VSS (power), 118 VSS (power), 120 VDD (power), 121 VSS (power), 128 VSS (power), 137 VDD (power), 146 VSS (power), 151 VDD (power), 156 VSS (power), 165 VDD (power), 174 VSS (power), 179 VSS (power), 181 VSS (power), 182 VDD (power), 183 VSS (power), 188 VSS (power), 197 VDD (power), 206 VSS (power), 211 VSS (power), 216 VSS (power), 225 VDD (power), 234 VSS (power), 239 VSS (power)

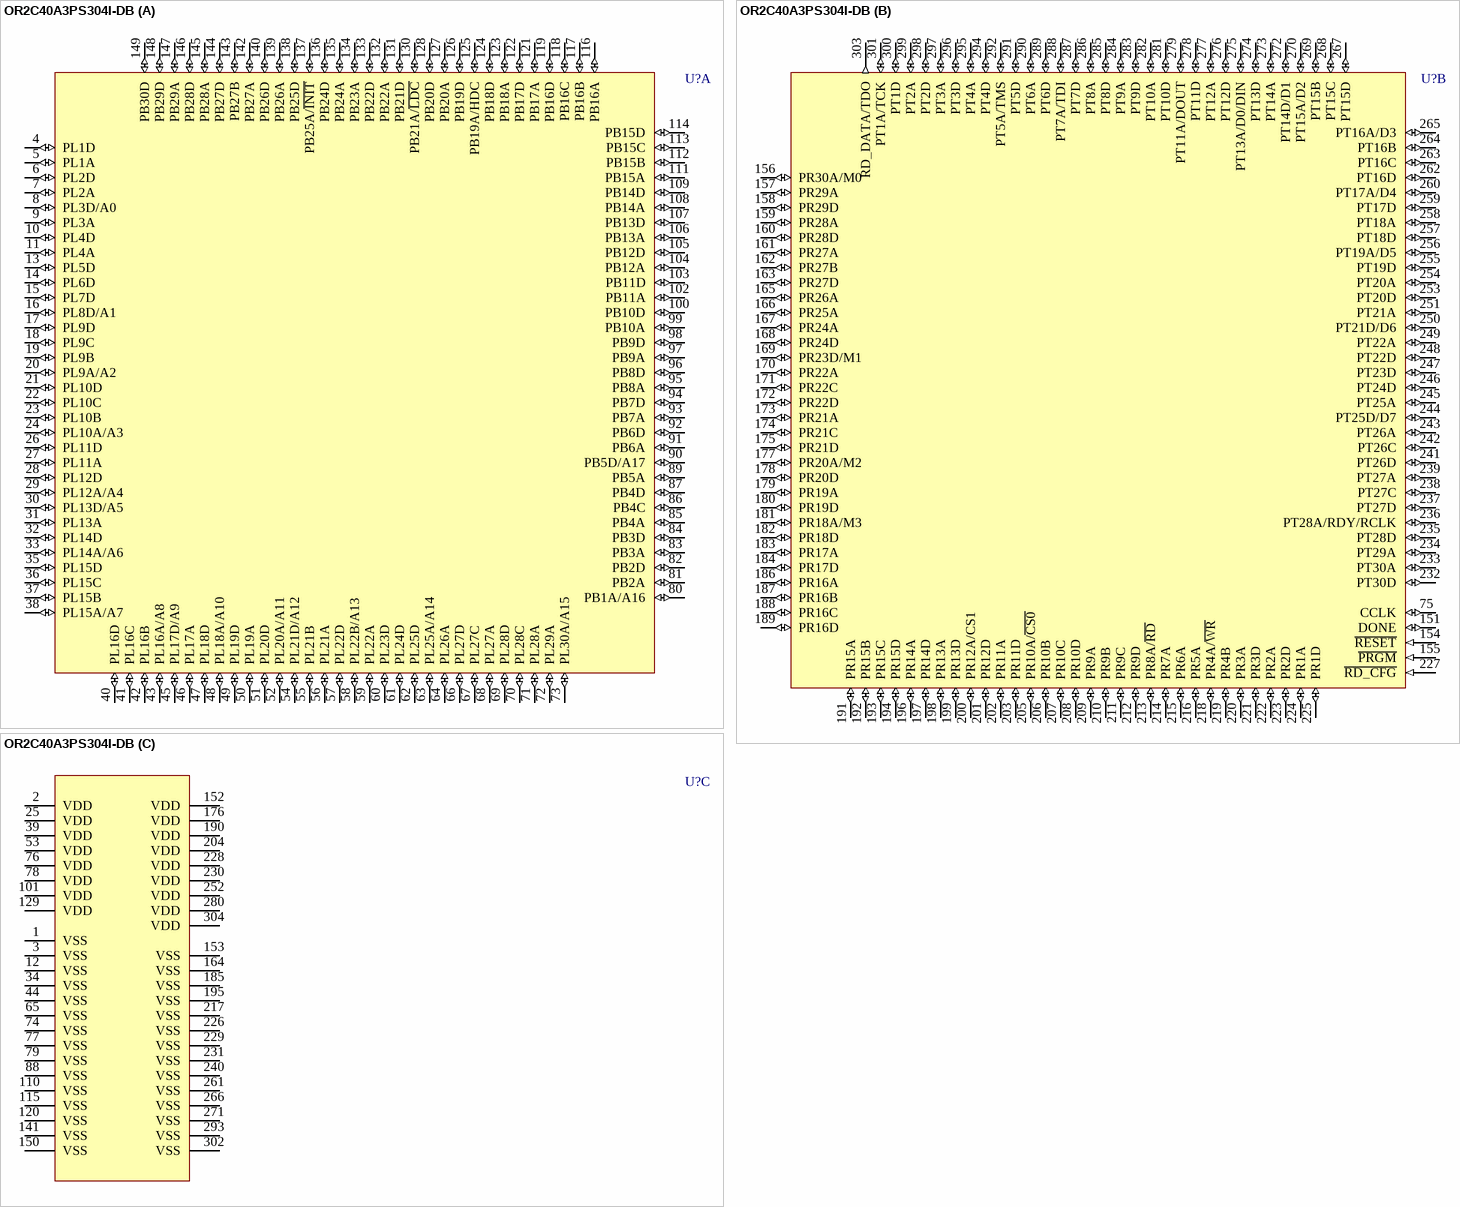
[diagram p73: symbol OR2C40A3PS304I-DB]